# Altium integrated library Atmel Microcontroller 32-Bit ARM.IntLib: 116 symbols (part 7 of 10)
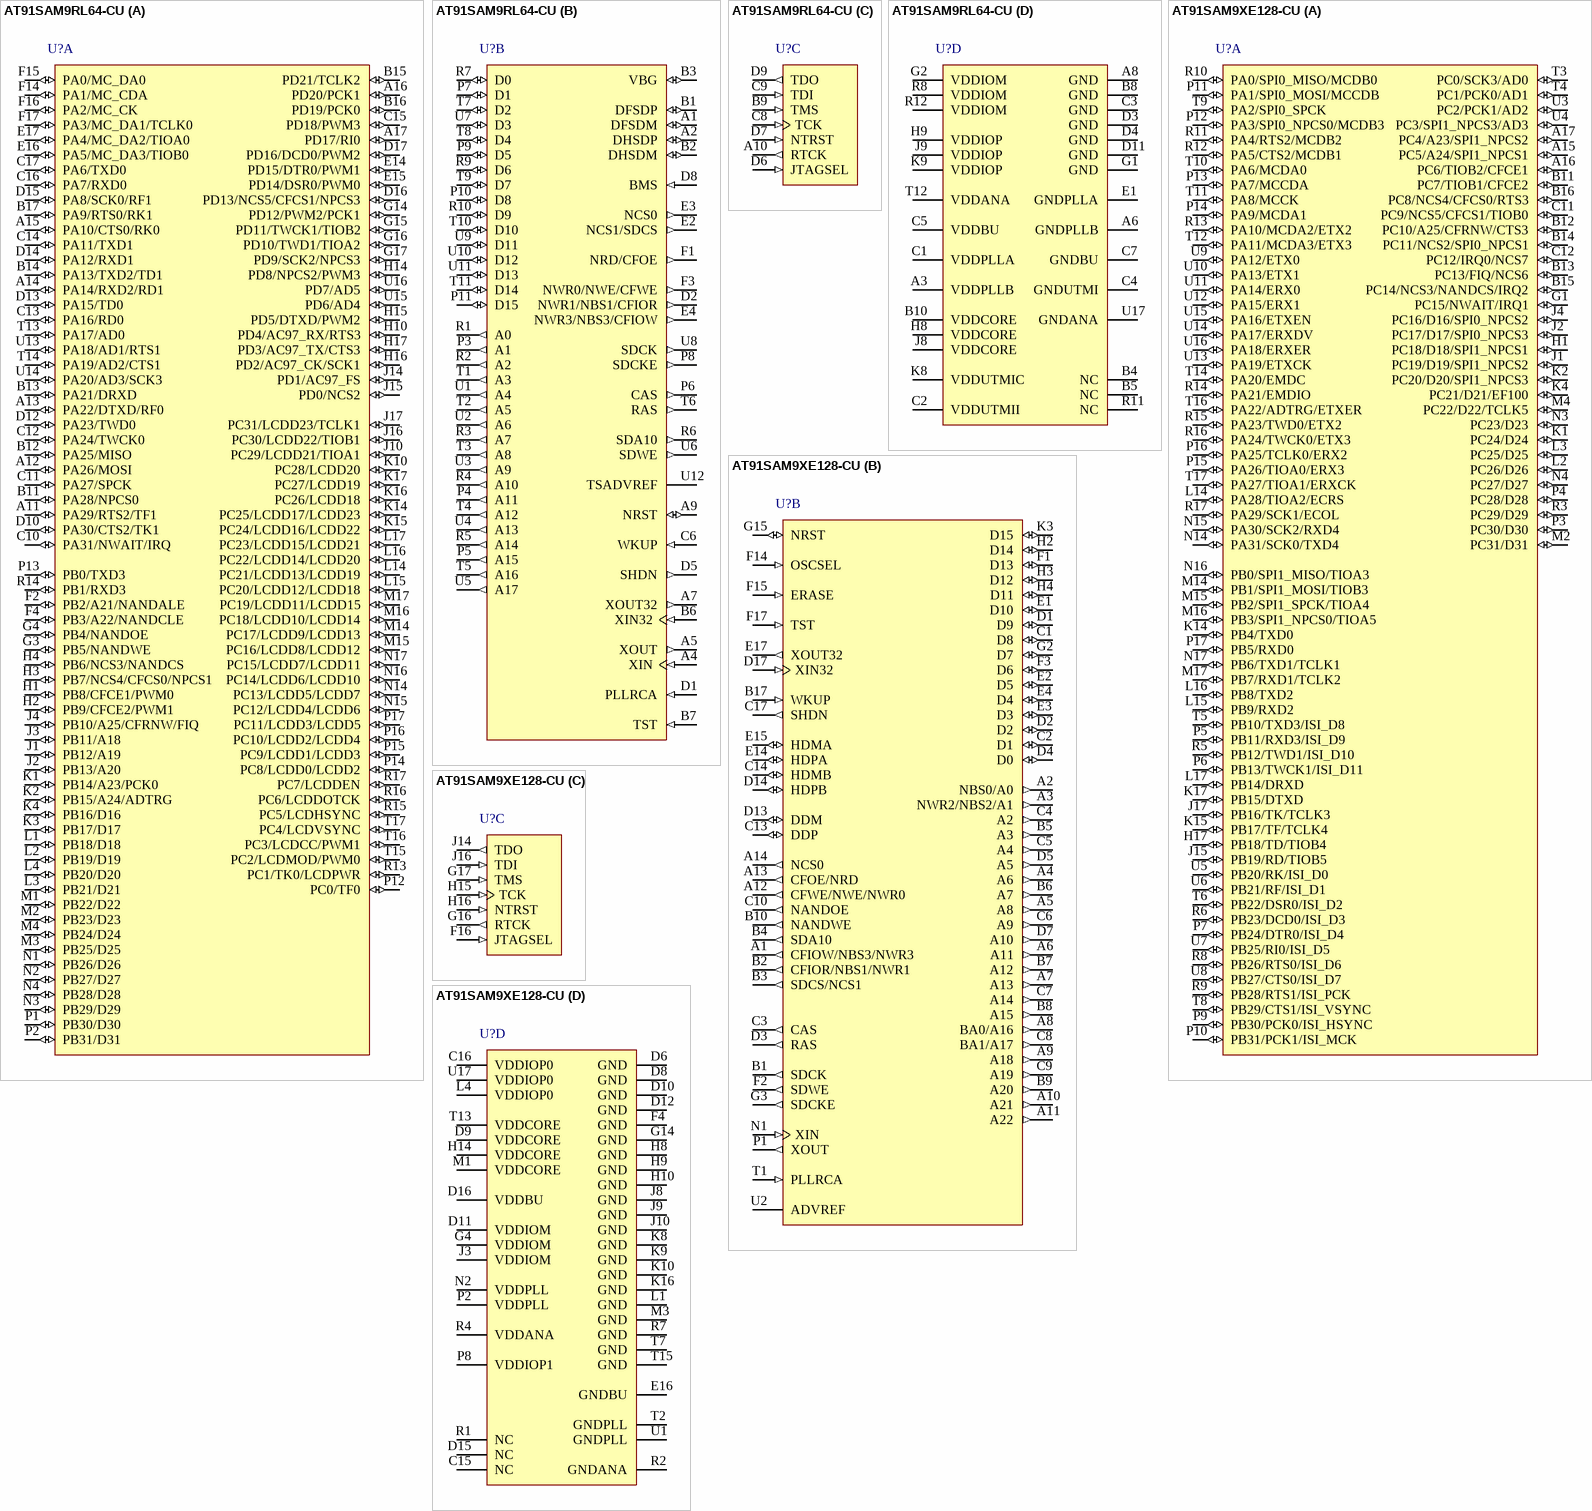
[diagram p58: symbols AT91SAM9RL64-CU to AT91SAM9XE128-CU]

## AT91SAM9XE128-CU
designator U?
AT91 ARM Thumb 32-bit Microcontroller, 128KB Flash, 32KB ROM, 16KB SRAM, EBI, E-MAC, FS USB, ISI, 217-Pin LFBGA, Industrial Grade (-40°C to 85°C), Pb-Free; Published: 20-Sep-2010; DatasheetVersion: revC, Jan-2010; PackageVersion: 2009; PackageReference: LFBGA217; Publisher: Altium Limited; PackageDescription: 217-Ball Plastic Low Profile Fine-Pitch BGA, 15 x 15 mm Body, 0.8 mm Pitch; Supplier 1: Digi-Key; Supplier Part Number 1: AT91SAM9XE128-CU-ND; Supplier 2: Mouser; Supplier Part Number 2: 556-A91SAM9XE128-CU; Code_JEDEC: MO-205; ComponentLink1Description: Manufacturer Link; ComponentLink1URL: http://www.atmel.com/products/AT91/default.asp?; ComponentLink2Description: AT91SAM9XE128/256/512 Datasheet; ComponentLink2URL: http://www.atmel.com/dyn/resources/prod_documents/doc6254.pdf; ComponentLink3Description: AT91SAM9XE128/256/512 Summary; ComponentLink3URL: http://www.atmel.com/dyn/resources/prod_documents/6254s.pdf; ComponentLink4Description: ARM926EJ-S Reference Manual; ComponentLink4URL: http://www.atmel.com/dyn/resources/prod_documents/ARM_926EJS_TRM.pdf; ComponentLink5Description: Atmel.com Home; ComponentLink5URL: http://www.atmel.com
footprint LFBGA217 (BGA, 208-Leads, Body 15x15mm, Pitch 0.8mm)
part A pins: A15 PC5/A24/SPI1_NPCS1 (io), A16 PC6/TIOB2/CFCE1 (io), A17 PC4/A23/SPI1_NPCS2 (io), B11 PC7/TIOB1/CFCE2 (io), B12 PC10/A25/CFRNW/CTS3 (io), B13 PC13/FIQ/NCS6 (io), B14 PC11/NCS2/SPI0_NPCS1 (io), B15 PC14/NCS3/NANDCS/IRQ2 (io), B16 PC8/NCS4/CFCS0/RTS3 (io), C11 PC9/NCS5/CFCS1/TIOB0 (io), C12 PC12/IRQ0/NCS7 (io), G1 PC15/NWAIT/IRQ1 (io), H1 PC18/D18/SPI1_NPCS1 (io), H17 PB18/TD/TIOB4 (io), J1 PC19/D19/SPI1_NPCS2 (io), J2 PC17/D17/SPI0_NPCS3 (io), J4 PC16/D16/SPI0_NPCS2 (io), J15 PB19/RD/TIOB5 (io), J17 PB16/TK/TCLK3 (io), K1 PC24/D24 (io), K2 PC20/D20/SPI1_NPCS3 (io), K4 PC21/D21/EF100 (io), K14 PB4/TXD0 (io), K15 PB17/TF/TCLK4 (io), K17 PB15/DTXD (io), L2 PC26/D26 (io), L3 PC25/D25 (io), L14 PA28/TIOA2/ECRS (io), L15 PB9/RXD2 (io), L16 PB8/TXD2 (io), L17 PB14/DRXD (io), M2 PC31/D31 (io), M4 PC22/D22/TCLK5 (io), M14 PB1/SPI1_MOSI/TIOB3 (io), M15 PB2/SPI1_SPCK/TIOA4 (io), M16 PB3/SPI1_NPCS0/TIOA5 (io), M17 PB7/RXD1/TCLK2 (io), N3 PC23/D23 (io), N4 PC27/D27 (io), N14 PA31/SCK0/TXD4 (io), N15 PA30/SCK2/RXD4 (io), N16 PB0/SPI1_MISO/TIOA3 (io), N17 PB6/TXD1/TCLK1 (io), P3 PC30/D30 (io), P4 PC28/D28 (io), P5 PB11/RXD3/ISI_D9 (io), P6 PB13/TWCK1/ISI_D11 (io), P7 PB24/DTR0/ISI_D4 (io), P9 PB30/PCK0/ISI_HSYNC (io), P10 PB31/PCK1/ISI_MCK (io), P11 PA1/SPI0_MOSI/MCCDB (io), P12 PA3/SPI0_NPCS0/MCDB3 (io), P13 PA7/MCCDA (io), P14 PA9/MCDA1 (io), P15 PA26/TIOA0/ERX3 (io), P16 PA25/TCLK0/ERX2 (io), P17 PB5/RXD0 (io), R3 PC29/D29 (io), R5 PB12/TWD1/ISI_D10 (io), R6 PB23/DCD0/ISI_D3 (io), R8 PB26/RTS0/ISI_D6 (io), R9 PB28/RTS1/ISI_PCK (io), R10 PA0/SPI0_MISO/MCDB0 (io), R11 PA4/RTS2/MCDB2 (io), R12 PA5/CTS2/MCDB1 (io), R13 PA10/MCDA2/ETX2 (io), R14 PA21/EMDIO (io), R15 PA23/TWD0/ETX2 (io), R16 PA24/TWCK0/ETX3 (io), R17 PA29/SCK1/ECOL (io), T3 PC0/SCK3/AD0 (io), T4 PC1/PCK0/AD1 (io), T5 PB10/TXD3/ISI_D8 (io), T6 PB22/DSR0/ISI_D2 (io), T8 PB29/CTS1/ISI_VSYNC (io), T9 PA2/SPI0_SPCK (io), T10 PA6/MCDA0 (io), T11 PA8/MCCK (io), T12 PA11/MCDA3/ETX3 (io), T14 PA20/EMDC (io), T16 PA22/ADTRG/ETXER (io), T17 PA27/TIOA1/ERXCK (io), U3 PC2/PCK1/AD2 (io), U4 PC3/SPI1_NPCS3/AD3 (io), U5 PB20/RK/ISI_D0 (io), U6 PB21/RF/ISI_D1 (io), U7 PB25/RI0/ISI_D5 (io), U8 PB27/CTS0/ISI_D7 (io), U9 PA12/ETX0 (io), U10 PA13/ETX1 (io), U11 PA14/ERX0 (io), U12 PA15/ERX1 (io), U13 PA19/ETXCK (io), U14 PA17/ERXDV (io), U15 PA16/ETXEN (io), U16 PA18/ERXER (io)
part B pins: A1 CFIOW/NBS3/NWR3 (out), A2 NBS0/A0 (out), A3 NWR2/NBS2/A1 (out), A4 A6 (out), A5 A8 (out), A6 A11 (out), A7 A13 (out), A8 BA0/A16 (out), A9 A18 (out), A10 A21 (out), A11 A22 (out), A12 CFWE/NWE/NWR0 (out), A13 CFOE/NRD (out), A14 NCS0 (out), B1 SDCK (out), B2 CFIOR/NBS1/NWR1 (out), B3 SDCS/NCS1 (out), B4 SDA10 (out), B5 A3 (out), B6 A7 (out), B7 A12 (out), B8 A15 (out), B9 A20 (out), B10 NANDWE (out), B17 WKUP (in), C1 D8 (io), C2 D1 (io), C3 CAS (out), C4 A2 (out), C5 A4 (out), C6 A9 (out), C7 A14 (out), C8 BA1/A17 (out), C9 A19 (out), C10 NANDOE (out), C13 DDP (io), C14 HDMB (io), C17 SHDN (out), D1 D9 (io), D2 (io), D3 RAS (out), D4 D0 (io), D5 A5 (out), D7 A10 (out), D13 DDM (io), D14 HDPB (io), D17 XIN32 (in), E1 D10 (io), E2 D5 (io), E3 D3 (io), E4 D4 (io), E14 HDPA (io), E15 HDMA (io), E17 XOUT32 (out), F1 D13 (io), F2 SDWE (out), F3 D6 (io), F14 OSCSEL (in), F15 ERASE (in), F17 TST (in), G2 D7 (io), G3 SDCKE (out), G15 NRST (io), H2 D14 (io), H3 D12 (io), H4 D11 (io), K3 D15 (io), N1 XIN (in), P1 XOUT (out), T1 PLLRCA (in), U2 ADVREF (power)
part C pins: F16 JTAGSEL (in), G16 RTCK (out), G17 TMS (in), H15 TCK (in), H16 NTRST (in), J14 TDO (out), J16 TDI (in)
part D pins: C15 NC, C16 VDDIOP0 (power), D6 GND (power), D8 GND (power), D9 VDDCORE (power), D10 GND (power), D11 VDDIOM (power), D12 GND (power), D15 NC, D16 VDDBU (power), E16 GNDBU (power), F4 GND (power), G4 VDDIOM (power), G14 GND (power), H8 GND (power), H9 GND (power), H10 GND (power), H14 VDDCORE (power), J3 VDDIOM (power), J8 GND (power), J9 GND (power), J10 GND (power), K8 GND (power), K9 GND (power), K10 GND (power), K16 GND (power), L1 GND (power), L4 VDDIOP0 (power), M1 VDDCORE (power), M3 GND (power), N2 VDDPLL (power), P2 VDDPLL (power), P8 VDDIOP1 (power), R1 NC, R2 GNDANA (power), R4 VDDANA (power), R7 GND (power), T2 GNDPLL (power), T7 GND (power), T13 VDDCORE (power), T15 GND (power), U1 GNDPLL (power), U17 VDDIOP0 (power)

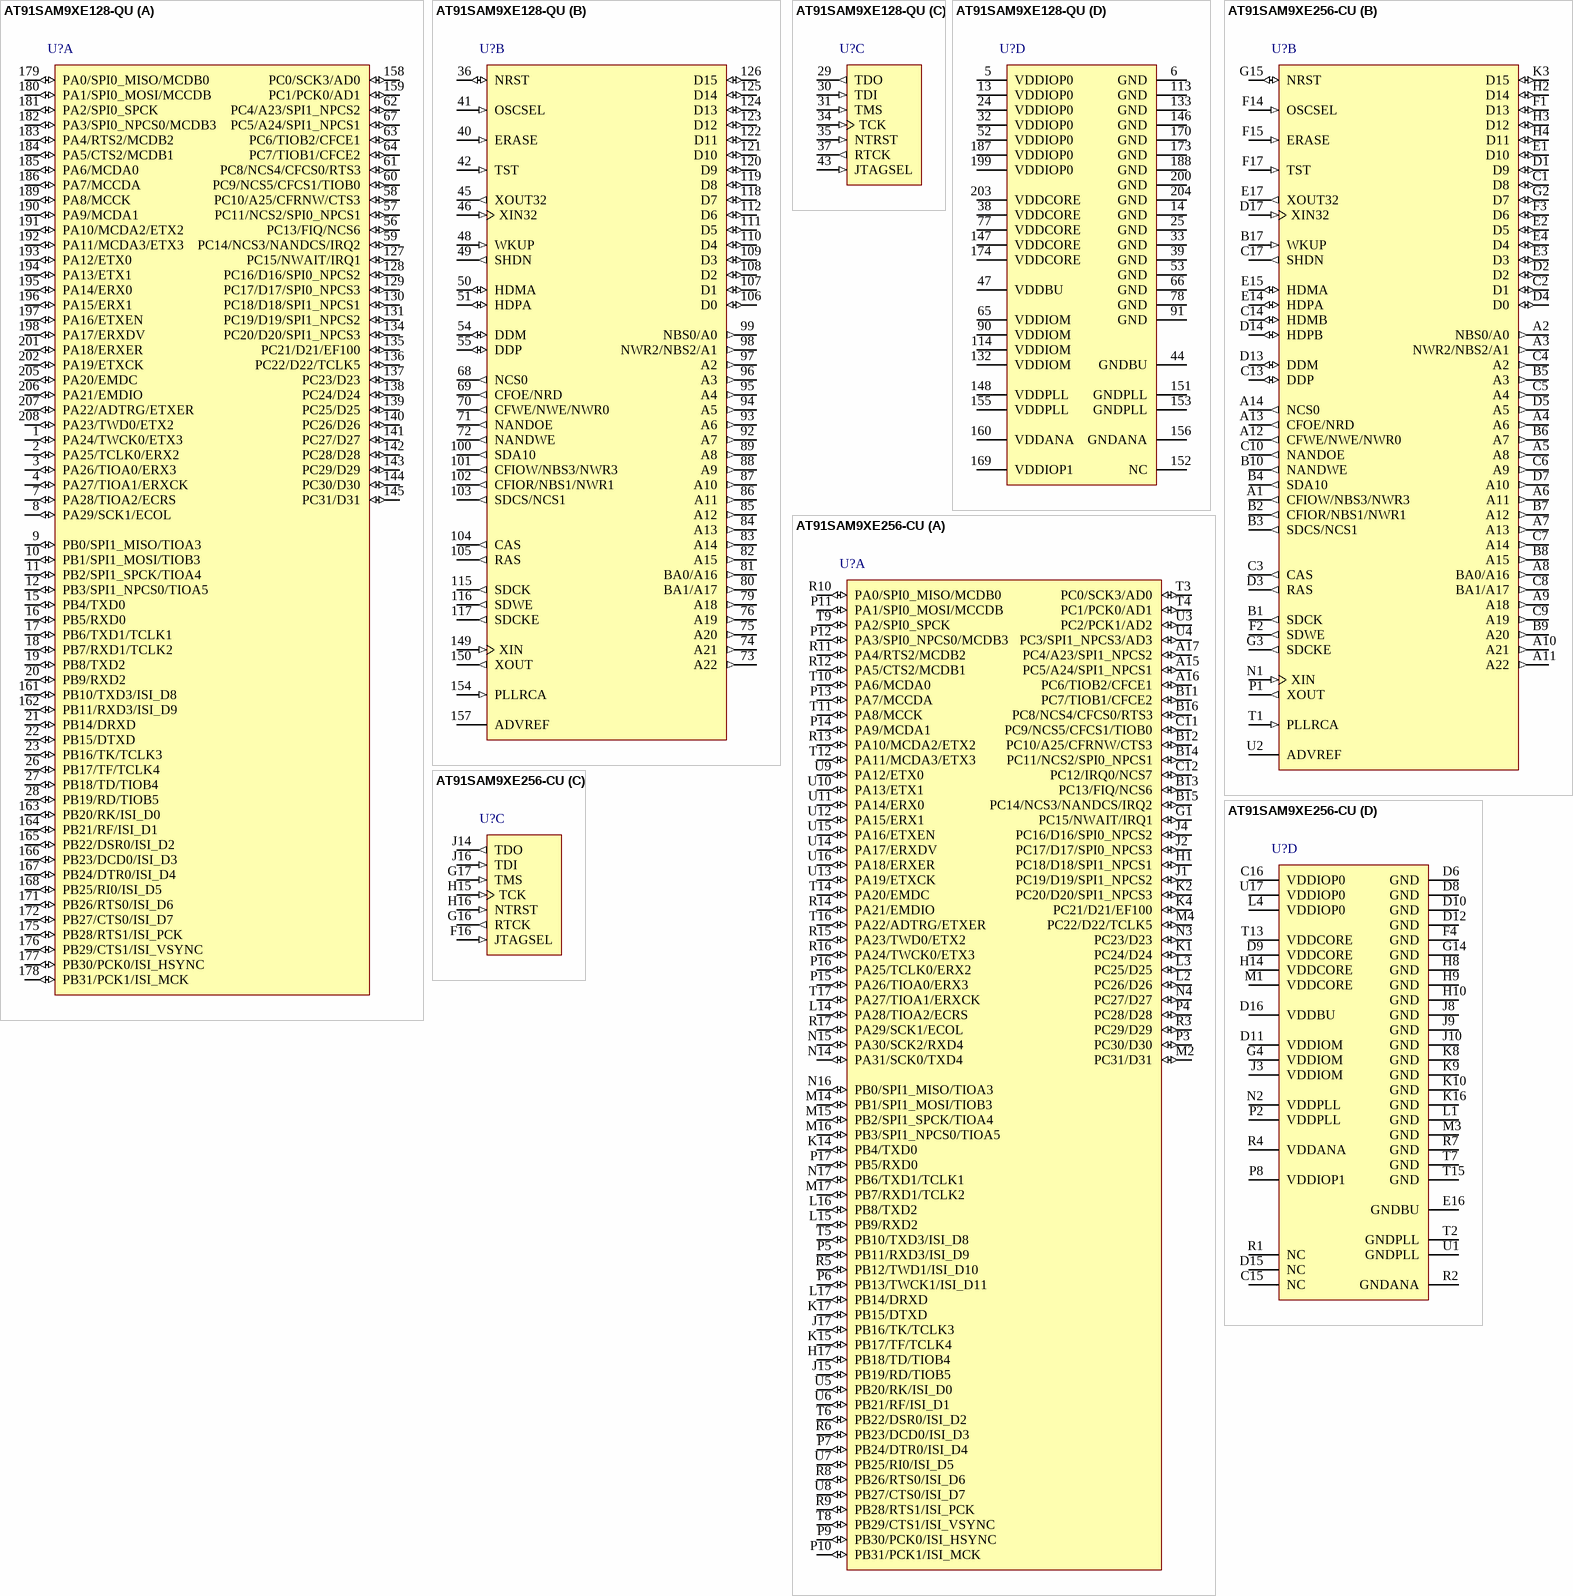
[diagram p37: symbols AT91SAM9XE128-QU to AT91SAM9XE256-CU]

## AT91SAM9XE128-QU
designator U?
AT91 ARM Thumb 32-bit Microcontroller, 128KB Flash, 32KB ROM, 16KB SRAM, EBI, E-MAC, FS USB, ISI, 208-Pin PQFP, Industrial Grade (-40°C to 85°C), Pb-Free; Published: 20-Sep-2010; DatasheetVersion: revC, Jan-2010; PackageVersion: Jul-2005; PackageReference: QFP208; Publisher: Altium Limited; PackageDescription: 208-Pin Plastic Shrink Quad Flat Pack 0.5 mm Pitch; Supplier 1: Digi-Key; Supplier Part Number 1: AT91SAM9XE128-QU-ND; Supplier 2: Mouser; Supplier Part Number 2: 556-A91SAM9XE128-QU; Code_JEDEC: MS-022; ComponentLink1Description: Manufacturer Link; ComponentLink1URL: http://www.atmel.com/products/AT91/default.asp?; ComponentLink2Description: AT91SAM9XE128/256/512 Datasheet; ComponentLink2URL: http://www.atmel.com/dyn/resources/prod_documents/doc6254.pdf; ComponentLink3Description: AT91SAM9XE128/256/512 Summary; ComponentLink3URL: http://www.atmel.com/dyn/resources/prod_documents/6254s.pdf; ComponentLink4Description: ARM926EJ-S Reference Manual; ComponentLink4URL: http://www.atmel.com/dyn/resources/prod_documents/ARM_926EJS_TRM.pdf; ComponentLink5Description: Atmel.com Home; ComponentLink5URL: http://www.atmel.com
footprint QFP208_N (Shrink QFP, 208-Leads, Body 28x28mm, Pitch 0.5mm, IPC Medium Density)
footprint QFP208_L (Shrink QFP, 208-Leads, Body 28x28mm, Pitch 0.5mm, IPC High Density)
footprint QFP208_M (Shrink QFP, 208-Leads, Body 28x28mm, Pitch 0.5mm, IPC Low Density)
part A pins: 1 PA24/TWCK0/ETX3 (io), 2 PA25/TCLK0/ERX2 (io), 3 PA26/TIOA0/ERX3 (io), 4 PA27/TIOA1/ERXCK (io), 7 PA28/TIOA2/ECRS (io), 8 PA29/SCK1/ECOL (io), 9 PB0/SPI1_MISO/TIOA3 (io), 10 PB1/SPI1_MOSI/TIOB3 (io), 11 PB2/SPI1_SPCK/TIOA4 (io), 12 PB3/SPI1_NPCS0/TIOA5 (io), 15 PB4/TXD0 (io), 16 PB5/RXD0 (io), 17 PB6/TXD1/TCLK1 (io), 18 PB7/RXD1/TCLK2 (io), 19 PB8/TXD2 (io), 20 PB9/RXD2 (io), 21 PB14/DRXD (io), 22 PB15/DTXD (io), 23 PB16/TK/TCLK3 (io), 26 PB17/TF/TCLK4 (io), 27 PB18/TD/TIOB4 (io), 28 PB19/RD/TIOB5 (io), 56 PC13/FIQ/NCS6 (io), 57 PC11/NCS2/SPI0_NPCS1 (io), 58 PC10/A25/CFRNW/CTS3 (io), 59 PC14/NCS3/NANDCS/IRQ2 (io), 60 PC9/NCS5/CFCS1/TIOB0 (io), 61 PC8/NCS4/CFCS0/RTS3 (io), 62 PC4/A23/SPI1_NPCS2 (io), 63 PC6/TIOB2/CFCE1 (io), 64 PC7/TIOB1/CFCE2 (io), 67 PC5/A24/SPI1_NPCS1 (io), 127 PC15/NWAIT/IRQ1 (io), 128 PC16/D16/SPI0_NPCS2 (io), 129 PC17/D17/SPI0_NPCS3 (io), 130 PC18/D18/SPI1_NPCS1 (io), 131 PC19/D19/SPI1_NPCS2 (io), 134 PC20/D20/SPI1_NPCS3 (io), 135 PC21/D21/EF100 (io), 136 PC22/D22/TCLK5 (io), 137 PC23/D23 (io), 138 PC24/D24 (io), 139 PC25/D25 (io), 140 PC26/D26 (io), 141 PC27/D27 (io), 142 PC28/D28 (io), 143 PC29/D29 (io), 144 PC30/D30 (io), 145 PC31/D31 (io), 158 PC0/SCK3/AD0 (io), 159 PC1/PCK0/AD1 (io), 161 PB10/TXD3/ISI_D8 (io), 162 PB11/RXD3/ISI_D9 (io), 163 PB20/RK/ISI_D0 (io), 164 PB21/RF/ISI_D1 (io), 165 PB22/DSR0/ISI_D2 (io), 166 PB23/DCD0/ISI_D3 (io), 167 PB24/DTR0/ISI_D4 (io), 168 PB25/RI0/ISI_D5 (io), 171 PB26/RTS0/ISI_D6 (io), 172 PB27/CTS0/ISI_D7 (io), 175 PB28/RTS1/ISI_PCK (io), 176 PB29/CTS1/ISI_VSYNC (io), 177 PB30/PCK0/ISI_HSYNC (io), 178 PB31/PCK1/ISI_MCK (io), 179 PA0/SPI0_MISO/MCDB0 (io), 180 PA1/SPI0_MOSI/MCCDB (io), 181 PA2/SPI0_SPCK (io), 182 PA3/SPI0_NPCS0/MCDB3 (io), 183 PA4/RTS2/MCDB2 (io), 184 PA5/CTS2/MCDB1 (io), 185 PA6/MCDA0 (io), 186 PA7/MCCDA (io), 189 PA8/MCCK (io), 190 PA9/MCDA1 (io), 191 PA10/MCDA2/ETX2 (io), 192 PA11/MCDA3/ETX3 (io), 193 PA12/ETX0 (io), 194 PA13/ETX1 (io), 195 PA14/ERX0 (io), 196 PA15/ERX1 (io), 197 PA16/ETXEN (io), 198 PA17/ERXDV (io), 201 PA18/ERXER (io), 202 PA19/ETXCK (io), 205 PA20/EMDC (io), 206 PA21/EMDIO (io), 207 PA22/ADTRG/ETXER (io), 208 PA23/TWD0/ETX2 (io)
part B pins: 36 NRST (io), 40 ERASE (in), 41 OSCSEL (in), 42 TST (in), 45 XOUT32 (out), 46 XIN32 (in), 48 WKUP (in), 49 SHDN (out), 50 HDMA (io), 51 HDPA (io), 54 DDM (io), 55 DDP (io), 68 NCS0 (out), 69 CFOE/NRD (out), 70 CFWE/NWE/NWR0 (out), 71 NANDOE (out), 72 NANDWE (out), 73 A22 (out), 74 A21 (out), 75 A20 (out), 76 A19 (out), 79 A18 (out), 80 BA1/A17 (out), 81 BA0/A16 (out), 82 A15 (out), 83 A14 (out), 84 A13 (out), 85 A12 (out), 86 A11 (out), 87 A10 (out), 88 A9 (out), 89 A8 (out), 92 A7 (out), 93 A6 (out), 94 A5 (out), 95 A4 (out), 96 A3 (out), 97 A2 (out), 98 NWR2/NBS2/A1 (out), 99 NBS0/A0 (out), 100 SDA10 (out), 101 CFIOW/NBS3/NWR3 (out), 102 CFIOR/NBS1/NWR1 (out), 103 SDCS/NCS1 (out), 104 CAS (out), 105 RAS (out), 106 D0 (io), 107 D1 (io), 108 D2 (io), 109 D3 (io), 110 D4 (io), 111 D5 (io), 112 D6 (io), 115 SDCK (out), 116 SDWE (out), 117 SDCKE (out), 118 D7 (io), 119 D8 (io), 120 D9 (io), 121 D10 (io), 122 D11 (io), 123 D12 (io), 124 D13 (io), 125 D14 (io), 126 D15 (io), 149 XIN (in), 150 XOUT (out), 154 PLLRCA (in), 157 ADVREF (power)
part C pins: 29 TDO (out), 30 TDI (in), 31 TMS (in), 34 TCK (in), 35 NTRST (in), 37 RTCK (out), 43 JTAGSEL (in)
part D pins: 5 VDDIOP0 (power), 6 GND (power), 13 VDDIOP0 (power), 14 GND (power), 24 VDDIOP0 (power), 25 GND (power), 32 VDDIOP0 (power), 33 GND (power), 38 VDDCORE (power), 39 GND (power), 44 GNDBU (power), 47 VDDBU (power), 52 VDDIOP0 (power), 53 GND (power), 65 VDDIOM (power), 66 GND (power), 77 VDDCORE (power), 78 GND (power), 90 VDDIOM (power), 91 GND (power), 113 GND (power), 114 VDDIOM (power), 132 VDDIOM (power), 133 GND (power), 146 GND (power), 147 VDDCORE (power), 148 VDDPLL (power), 151 GNDPLL (power), 152 NC, 153 GNDPLL (power), 155 VDDPLL (power), 156 GNDANA (power), 160 VDDANA (power), 169 VDDIOP1 (power), 170 GND (power), 173 GND (power), 174 VDDCORE (power), 187 VDDIOP0 (power), 188 GND (power), 199 VDDIOP0 (power), 200 GND (power), 203 VDDCORE (power), 204 GND (power)

## AT91SAM9XE256-CU
designator U?
AT91 ARM Thumb 32-bit Microcontroller, 256KB Flash, 32KB ROM, 32KB SRAM, EBI, E-MAC, FS USB, ISI, 217-Pin LFBGA, Industrial Grade (-40°C to 85°C), Pb-Free; Published: 20-Sep-2010; DatasheetVersion: revC, Jan-2010; PackageVersion: 2009; PackageReference: LFBGA217; Publisher: Altium Limited; PackageDescription: 217-Ball Plastic Low Profile Fine-Pitch BGA, 15 x 15 mm Body, 0.8 mm Pitch; Supplier 1: Digi-Key; Supplier Part Number 1: AT91SAM9XE256-CU-ND; Supplier 2: Mouser; Supplier Part Number 2: 556-A91SAM9XE256CU; Code_JEDEC: MO-205; ComponentLink1Description: Manufacturer Link; ComponentLink1URL: http://www.atmel.com/products/AT91/default.asp?; ComponentLink2Description: AT91SAM9XE128/256/512 Datasheet; ComponentLink2URL: http://www.atmel.com/dyn/resources/prod_documents/doc6254.pdf; ComponentLink3Description: AT91SAM9XE128/256/512 Summary; ComponentLink3URL: http://www.atmel.com/dyn/resources/prod_documents/6254s.pdf; ComponentLink4Description: ARM926EJ-S Reference Manual; ComponentLink4URL: http://www.atmel.com/dyn/resources/prod_documents/ARM_926EJS_TRM.pdf; ComponentLink5Description: Atmel.com Home; ComponentLink5URL: http://www.atmel.com
footprint LFBGA217 (BGA, 208-Leads, Body 15x15mm, Pitch 0.8mm)
part A pins: A15 PC5/A24/SPI1_NPCS1 (io), A16 PC6/TIOB2/CFCE1 (io), A17 PC4/A23/SPI1_NPCS2 (io), B11 PC7/TIOB1/CFCE2 (io), B12 PC10/A25/CFRNW/CTS3 (io), B13 PC13/FIQ/NCS6 (io), B14 PC11/NCS2/SPI0_NPCS1 (io), B15 PC14/NCS3/NANDCS/IRQ2 (io), B16 PC8/NCS4/CFCS0/RTS3 (io), C11 PC9/NCS5/CFCS1/TIOB0 (io), C12 PC12/IRQ0/NCS7 (io), G1 PC15/NWAIT/IRQ1 (io), H1 PC18/D18/SPI1_NPCS1 (io), H17 PB18/TD/TIOB4 (io), J1 PC19/D19/SPI1_NPCS2 (io), J2 PC17/D17/SPI0_NPCS3 (io), J4 PC16/D16/SPI0_NPCS2 (io), J15 PB19/RD/TIOB5 (io), J17 PB16/TK/TCLK3 (io), K1 PC24/D24 (io), K2 PC20/D20/SPI1_NPCS3 (io), K4 PC21/D21/EF100 (io), K14 PB4/TXD0 (io), K15 PB17/TF/TCLK4 (io), K17 PB15/DTXD (io), L2 PC26/D26 (io), L3 PC25/D25 (io), L14 PA28/TIOA2/ECRS (io), L15 PB9/RXD2 (io), L16 PB8/TXD2 (io), L17 PB14/DRXD (io), M2 PC31/D31 (io), M4 PC22/D22/TCLK5 (io), M14 PB1/SPI1_MOSI/TIOB3 (io), M15 PB2/SPI1_SPCK/TIOA4 (io), M16 PB3/SPI1_NPCS0/TIOA5 (io), M17 PB7/RXD1/TCLK2 (io), N3 PC23/D23 (io), N4 PC27/D27 (io), N14 PA31/SCK0/TXD4 (io), N15 PA30/SCK2/RXD4 (io), N16 PB0/SPI1_MISO/TIOA3 (io), N17 PB6/TXD1/TCLK1 (io), P3 PC30/D30 (io), P4 PC28/D28 (io), P5 PB11/RXD3/ISI_D9 (io), P6 PB13/TWCK1/ISI_D11 (io), P7 PB24/DTR0/ISI_D4 (io), P9 PB30/PCK0/ISI_HSYNC (io), P10 PB31/PCK1/ISI_MCK (io), P11 PA1/SPI0_MOSI/MCCDB (io), P12 PA3/SPI0_NPCS0/MCDB3 (io), P13 PA7/MCCDA (io), P14 PA9/MCDA1 (io), P15 PA26/TIOA0/ERX3 (io), P16 PA25/TCLK0/ERX2 (io), P17 PB5/RXD0 (io), R3 PC29/D29 (io), R5 PB12/TWD1/ISI_D10 (io), R6 PB23/DCD0/ISI_D3 (io), R8 PB26/RTS0/ISI_D6 (io), R9 PB28/RTS1/ISI_PCK (io), R10 PA0/SPI0_MISO/MCDB0 (io), R11 PA4/RTS2/MCDB2 (io), R12 PA5/CTS2/MCDB1 (io), R13 PA10/MCDA2/ETX2 (io), R14 PA21/EMDIO (io), R15 PA23/TWD0/ETX2 (io), R16 PA24/TWCK0/ETX3 (io), R17 PA29/SCK1/ECOL (io), T3 PC0/SCK3/AD0 (io), T4 PC1/PCK0/AD1 (io), T5 PB10/TXD3/ISI_D8 (io), T6 PB22/DSR0/ISI_D2 (io), T8 PB29/CTS1/ISI_VSYNC (io), T9 PA2/SPI0_SPCK (io), T10 PA6/MCDA0 (io), T11 PA8/MCCK (io), T12 PA11/MCDA3/ETX3 (io), T14 PA20/EMDC (io), T16 PA22/ADTRG/ETXER (io), T17 PA27/TIOA1/ERXCK (io), U3 PC2/PCK1/AD2 (io), U4 PC3/SPI1_NPCS3/AD3 (io), U5 PB20/RK/ISI_D0 (io), U6 PB21/RF/ISI_D1 (io), U7 PB25/RI0/ISI_D5 (io), U8 PB27/CTS0/ISI_D7 (io), U9 PA12/ETX0 (io), U10 PA13/ETX1 (io), U11 PA14/ERX0 (io), U12 PA15/ERX1 (io), U13 PA19/ETXCK (io), U14 PA17/ERXDV (io), U15 PA16/ETXEN (io), U16 PA18/ERXER (io)
part B pins: A1 CFIOW/NBS3/NWR3 (out), A2 NBS0/A0 (out), A3 NWR2/NBS2/A1 (out), A4 A6 (out), A5 A8 (out), A6 A11 (out), A7 A13 (out), A8 BA0/A16 (out), A9 A18 (out), A10 A21 (out), A11 A22 (out), A12 CFWE/NWE/NWR0 (out), A13 CFOE/NRD (out), A14 NCS0 (out), B1 SDCK (out), B2 CFIOR/NBS1/NWR1 (out), B3 SDCS/NCS1 (out), B4 SDA10 (out), B5 A3 (out), B6 A7 (out), B7 A12 (out), B8 A15 (out), B9 A20 (out), B10 NANDWE (out), B17 WKUP (in), C1 D8 (io), C2 D1 (io), C3 CAS (out), C4 A2 (out), C5 A4 (out), C6 A9 (out), C7 A14 (out), C8 BA1/A17 (out), C9 A19 (out), C10 NANDOE (out), C13 DDP (io), C14 HDMB (io), C17 SHDN (out), D1 D9 (io), D2 (io), D3 RAS (out), D4 D0 (io), D5 A5 (out), D7 A10 (out), D13 DDM (io), D14 HDPB (io), D17 XIN32 (in), E1 D10 (io), E2 D5 (io), E3 D3 (io), E4 D4 (io), E14 HDPA (io), E15 HDMA (io), E17 XOUT32 (out), F1 D13 (io), F2 SDWE (out), F3 D6 (io), F14 OSCSEL (in), F15 ERASE (in), F17 TST (in), G2 D7 (io), G3 SDCKE (out), G15 NRST (io), H2 D14 (io), H3 D12 (io), H4 D11 (io), K3 D15 (io), N1 XIN (in), P1 XOUT (out), T1 PLLRCA (in), U2 ADVREF (power)
part C pins: F16 JTAGSEL (in), G16 RTCK (out), G17 TMS (in), H15 TCK (in), H16 NTRST (in), J14 TDO (out), J16 TDI (in)
part D pins: C15 NC, C16 VDDIOP0 (power), D6 GND (power), D8 GND (power), D9 VDDCORE (power), D10 GND (power), D11 VDDIOM (power), D12 GND (power), D15 NC, D16 VDDBU (power), E16 GNDBU (power), F4 GND (power), G4 VDDIOM (power), G14 GND (power), H8 GND (power), H9 GND (power), H10 GND (power), H14 VDDCORE (power), J3 VDDIOM (power), J8 GND (power), J9 GND (power), J10 GND (power), K8 GND (power), K9 GND (power), K10 GND (power), K16 GND (power), L1 GND (power), L4 VDDIOP0 (power), M1 VDDCORE (power), M3 GND (power), N2 VDDPLL (power), P2 VDDPLL (power), P8 VDDIOP1 (power), R1 NC, R2 GNDANA (power), R4 VDDANA (power), R7 GND (power), T2 GNDPLL (power), T7 GND (power), T13 VDDCORE (power), T15 GND (power), U1 GNDPLL (power), U17 VDDIOP0 (power)

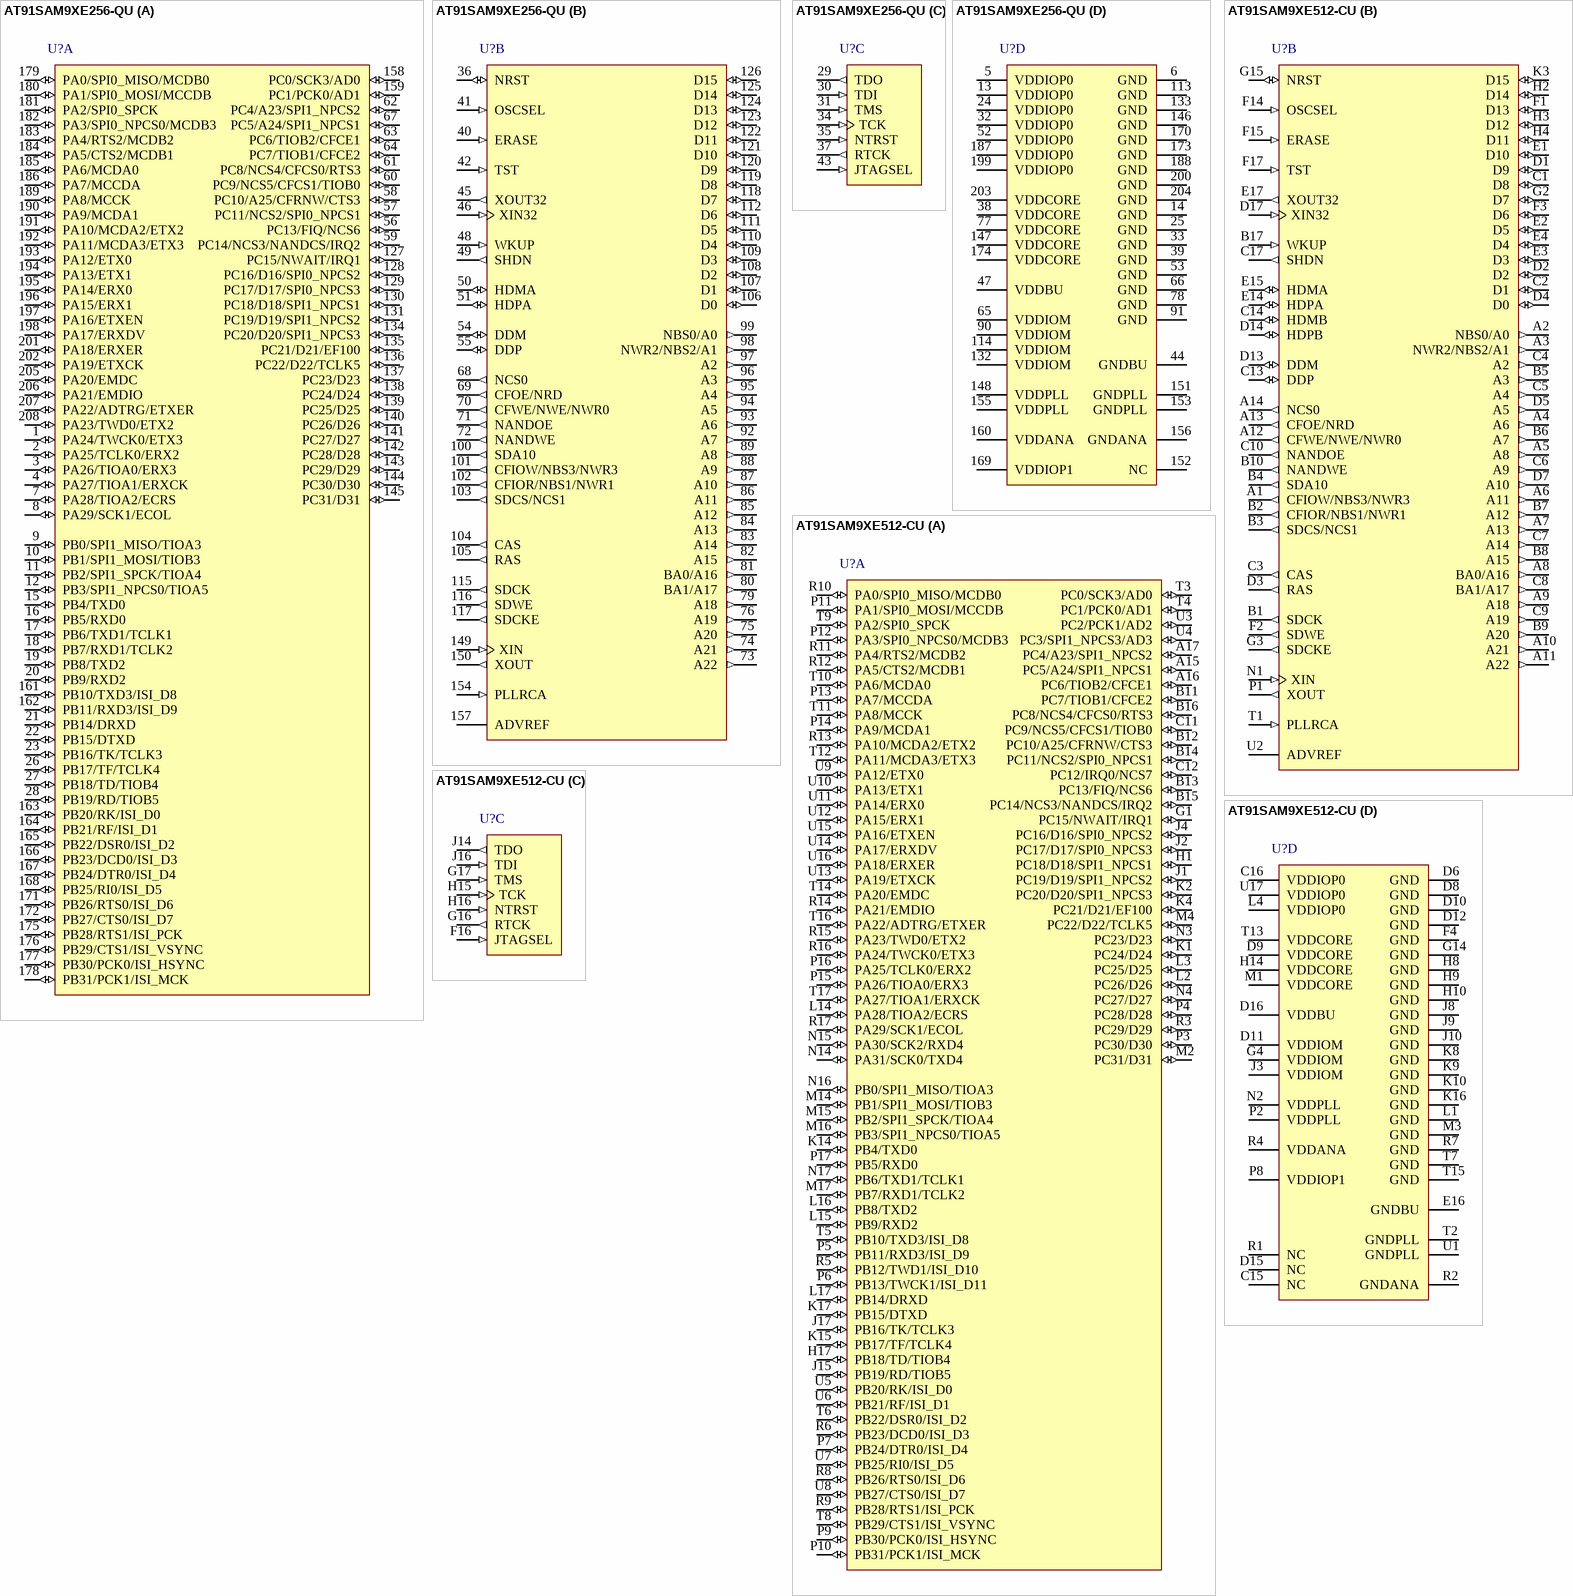
[diagram p38: symbols AT91SAM9XE256-QU to AT91SAM9XE512-CU]

## AT91SAM9XE256-QU
designator U?
AT91 ARM Thumb 32-bit Microcontroller, 256KB Flash, 32KB ROM, 32KB SRAM, EBI, E-MAC, FS USB, ISI, 208-Pin PQFP, Industrial Grade (-40°C to 85°C), Pb-Free; Published: 20-Sep-2010; DatasheetVersion: revC, Jan-2010; PackageVersion: Jul-2005; PackageReference: QFP208; Publisher: Altium Limited; PackageDescription: 208-Pin Plastic Shrink Quad Flat Pack 0.5 mm Pitch; Supplier 1: Digi-Key; Supplier Part Number 1: AT91SAM9XE256-QU-ND; Supplier 2: Mouser; Supplier Part Number 2: 556-A91SAM9XE256QU; Code_JEDEC: MS-022; ComponentLink1Description: Manufacturer Link; ComponentLink1URL: http://www.atmel.com/products/AT91/default.asp?; ComponentLink2Description: AT91SAM9XE128/256/512 Datasheet; ComponentLink2URL: http://www.atmel.com/dyn/resources/prod_documents/doc6254.pdf; ComponentLink3Description: AT91SAM9XE128/256/512 Summary; ComponentLink3URL: http://www.atmel.com/dyn/resources/prod_documents/6254s.pdf; ComponentLink4Description: ARM926EJ-S Reference Manual; ComponentLink4URL: http://www.atmel.com/dyn/resources/prod_documents/ARM_926EJS_TRM.pdf; ComponentLink5Description: Atmel.com Home; ComponentLink5URL: http://www.atmel.com
footprint QFP208_N (Shrink QFP, 208-Leads, Body 28x28mm, Pitch 0.5mm, IPC Medium Density)
footprint QFP208_L (Shrink QFP, 208-Leads, Body 28x28mm, Pitch 0.5mm, IPC High Density)
footprint QFP208_M (Shrink QFP, 208-Leads, Body 28x28mm, Pitch 0.5mm, IPC Low Density)
part A pins: 1 PA24/TWCK0/ETX3 (io), 2 PA25/TCLK0/ERX2 (io), 3 PA26/TIOA0/ERX3 (io), 4 PA27/TIOA1/ERXCK (io), 7 PA28/TIOA2/ECRS (io), 8 PA29/SCK1/ECOL (io), 9 PB0/SPI1_MISO/TIOA3 (io), 10 PB1/SPI1_MOSI/TIOB3 (io), 11 PB2/SPI1_SPCK/TIOA4 (io), 12 PB3/SPI1_NPCS0/TIOA5 (io), 15 PB4/TXD0 (io), 16 PB5/RXD0 (io), 17 PB6/TXD1/TCLK1 (io), 18 PB7/RXD1/TCLK2 (io), 19 PB8/TXD2 (io), 20 PB9/RXD2 (io), 21 PB14/DRXD (io), 22 PB15/DTXD (io), 23 PB16/TK/TCLK3 (io), 26 PB17/TF/TCLK4 (io), 27 PB18/TD/TIOB4 (io), 28 PB19/RD/TIOB5 (io), 56 PC13/FIQ/NCS6 (io), 57 PC11/NCS2/SPI0_NPCS1 (io), 58 PC10/A25/CFRNW/CTS3 (io), 59 PC14/NCS3/NANDCS/IRQ2 (io), 60 PC9/NCS5/CFCS1/TIOB0 (io), 61 PC8/NCS4/CFCS0/RTS3 (io), 62 PC4/A23/SPI1_NPCS2 (io), 63 PC6/TIOB2/CFCE1 (io), 64 PC7/TIOB1/CFCE2 (io), 67 PC5/A24/SPI1_NPCS1 (io), 127 PC15/NWAIT/IRQ1 (io), 128 PC16/D16/SPI0_NPCS2 (io), 129 PC17/D17/SPI0_NPCS3 (io), 130 PC18/D18/SPI1_NPCS1 (io), 131 PC19/D19/SPI1_NPCS2 (io), 134 PC20/D20/SPI1_NPCS3 (io), 135 PC21/D21/EF100 (io), 136 PC22/D22/TCLK5 (io), 137 PC23/D23 (io), 138 PC24/D24 (io), 139 PC25/D25 (io), 140 PC26/D26 (io), 141 PC27/D27 (io), 142 PC28/D28 (io), 143 PC29/D29 (io), 144 PC30/D30 (io), 145 PC31/D31 (io), 158 PC0/SCK3/AD0 (io), 159 PC1/PCK0/AD1 (io), 161 PB10/TXD3/ISI_D8 (io), 162 PB11/RXD3/ISI_D9 (io), 163 PB20/RK/ISI_D0 (io), 164 PB21/RF/ISI_D1 (io), 165 PB22/DSR0/ISI_D2 (io), 166 PB23/DCD0/ISI_D3 (io), 167 PB24/DTR0/ISI_D4 (io), 168 PB25/RI0/ISI_D5 (io), 171 PB26/RTS0/ISI_D6 (io), 172 PB27/CTS0/ISI_D7 (io), 175 PB28/RTS1/ISI_PCK (io), 176 PB29/CTS1/ISI_VSYNC (io), 177 PB30/PCK0/ISI_HSYNC (io), 178 PB31/PCK1/ISI_MCK (io), 179 PA0/SPI0_MISO/MCDB0 (io), 180 PA1/SPI0_MOSI/MCCDB (io), 181 PA2/SPI0_SPCK (io), 182 PA3/SPI0_NPCS0/MCDB3 (io), 183 PA4/RTS2/MCDB2 (io), 184 PA5/CTS2/MCDB1 (io), 185 PA6/MCDA0 (io), 186 PA7/MCCDA (io), 189 PA8/MCCK (io), 190 PA9/MCDA1 (io), 191 PA10/MCDA2/ETX2 (io), 192 PA11/MCDA3/ETX3 (io), 193 PA12/ETX0 (io), 194 PA13/ETX1 (io), 195 PA14/ERX0 (io), 196 PA15/ERX1 (io), 197 PA16/ETXEN (io), 198 PA17/ERXDV (io), 201 PA18/ERXER (io), 202 PA19/ETXCK (io), 205 PA20/EMDC (io), 206 PA21/EMDIO (io), 207 PA22/ADTRG/ETXER (io), 208 PA23/TWD0/ETX2 (io)
part B pins: 36 NRST (io), 40 ERASE (in), 41 OSCSEL (in), 42 TST (in), 45 XOUT32 (out), 46 XIN32 (in), 48 WKUP (in), 49 SHDN (out), 50 HDMA (io), 51 HDPA (io), 54 DDM (io), 55 DDP (io), 68 NCS0 (out), 69 CFOE/NRD (out), 70 CFWE/NWE/NWR0 (out), 71 NANDOE (out), 72 NANDWE (out), 73 A22 (out), 74 A21 (out), 75 A20 (out), 76 A19 (out), 79 A18 (out), 80 BA1/A17 (out), 81 BA0/A16 (out), 82 A15 (out), 83 A14 (out), 84 A13 (out), 85 A12 (out), 86 A11 (out), 87 A10 (out), 88 A9 (out), 89 A8 (out), 92 A7 (out), 93 A6 (out), 94 A5 (out), 95 A4 (out), 96 A3 (out), 97 A2 (out), 98 NWR2/NBS2/A1 (out), 99 NBS0/A0 (out), 100 SDA10 (out), 101 CFIOW/NBS3/NWR3 (out), 102 CFIOR/NBS1/NWR1 (out), 103 SDCS/NCS1 (out), 104 CAS (out), 105 RAS (out), 106 D0 (io), 107 D1 (io), 108 D2 (io), 109 D3 (io), 110 D4 (io), 111 D5 (io), 112 D6 (io), 115 SDCK (out), 116 SDWE (out), 117 SDCKE (out), 118 D7 (io), 119 D8 (io), 120 D9 (io), 121 D10 (io), 122 D11 (io), 123 D12 (io), 124 D13 (io), 125 D14 (io), 126 D15 (io), 149 XIN (in), 150 XOUT (out), 154 PLLRCA (in), 157 ADVREF (power)
part C pins: 29 TDO (out), 30 TDI (in), 31 TMS (in), 34 TCK (in), 35 NTRST (in), 37 RTCK (out), 43 JTAGSEL (in)
part D pins: 5 VDDIOP0 (power), 6 GND (power), 13 VDDIOP0 (power), 14 GND (power), 24 VDDIOP0 (power), 25 GND (power), 32 VDDIOP0 (power), 33 GND (power), 38 VDDCORE (power), 39 GND (power), 44 GNDBU (power), 47 VDDBU (power), 52 VDDIOP0 (power), 53 GND (power), 65 VDDIOM (power), 66 GND (power), 77 VDDCORE (power), 78 GND (power), 90 VDDIOM (power), 91 GND (power), 113 GND (power), 114 VDDIOM (power), 132 VDDIOM (power), 133 GND (power), 146 GND (power), 147 VDDCORE (power), 148 VDDPLL (power), 151 GNDPLL (power), 152 NC, 153 GNDPLL (power), 155 VDDPLL (power), 156 GNDANA (power), 160 VDDANA (power), 169 VDDIOP1 (power), 170 GND (power), 173 GND (power), 174 VDDCORE (power), 187 VDDIOP0 (power), 188 GND (power), 199 VDDIOP0 (power), 200 GND (power), 203 VDDCORE (power), 204 GND (power)

## AT91SAM9XE512-CU
designator U?
AT91 ARM Thumb 32-bit Microcontroller, 512KB Flash, 32KB ROM, 32KB SRAM, EBI, E-MAC, FS USB, ISI, 217-Pin LFBGA, Industrial Grade (-40°C to 85°C), Pb-Free; Published: 20-Sep-2010; DatasheetVersion: revC, Jan-2010; PackageVersion: 2009; PackageReference: LFBGA217; Publisher: Altium Limited; PackageDescription: 217-Ball Plastic Low Profile Fine-Pitch BGA, 15 x 15 mm Body, 0.8 mm Pitch; Supplier 1: Digi-Key; Supplier Part Number 1: AT91SAM9XE512-CU-ND; Supplier 2: Mouser; Supplier Part Number 2: 556-A91SAM9XE512-CU; Code_JEDEC: MO-205; ComponentLink1Description: Manufacturer Link; ComponentLink1URL: http://www.atmel.com/products/AT91/default.asp?; ComponentLink2Description: AT91SAM9XE128/256/512 Datasheet; ComponentLink2URL: http://www.atmel.com/dyn/resources/prod_documents/doc6254.pdf; ComponentLink3Description: AT91SAM9XE128/256/512 Summary; ComponentLink3URL: http://www.atmel.com/dyn/resources/prod_documents/6254s.pdf; ComponentLink4Description: ARM926EJ-S Reference Manual; ComponentLink4URL: http://www.atmel.com/dyn/resources/prod_documents/ARM_926EJS_TRM.pdf; ComponentLink5Description: Atmel.com Home; ComponentLink5URL: http://www.atmel.com
footprint LFBGA217 (BGA, 208-Leads, Body 15x15mm, Pitch 0.8mm)
part A pins: A15 PC5/A24/SPI1_NPCS1 (io), A16 PC6/TIOB2/CFCE1 (io), A17 PC4/A23/SPI1_NPCS2 (io), B11 PC7/TIOB1/CFCE2 (io), B12 PC10/A25/CFRNW/CTS3 (io), B13 PC13/FIQ/NCS6 (io), B14 PC11/NCS2/SPI0_NPCS1 (io), B15 PC14/NCS3/NANDCS/IRQ2 (io), B16 PC8/NCS4/CFCS0/RTS3 (io), C11 PC9/NCS5/CFCS1/TIOB0 (io), C12 PC12/IRQ0/NCS7 (io), G1 PC15/NWAIT/IRQ1 (io), H1 PC18/D18/SPI1_NPCS1 (io), H17 PB18/TD/TIOB4 (io), J1 PC19/D19/SPI1_NPCS2 (io), J2 PC17/D17/SPI0_NPCS3 (io), J4 PC16/D16/SPI0_NPCS2 (io), J15 PB19/RD/TIOB5 (io), J17 PB16/TK/TCLK3 (io), K1 PC24/D24 (io), K2 PC20/D20/SPI1_NPCS3 (io), K4 PC21/D21/EF100 (io), K14 PB4/TXD0 (io), K15 PB17/TF/TCLK4 (io), K17 PB15/DTXD (io), L2 PC26/D26 (io), L3 PC25/D25 (io), L14 PA28/TIOA2/ECRS (io), L15 PB9/RXD2 (io), L16 PB8/TXD2 (io), L17 PB14/DRXD (io), M2 PC31/D31 (io), M4 PC22/D22/TCLK5 (io), M14 PB1/SPI1_MOSI/TIOB3 (io), M15 PB2/SPI1_SPCK/TIOA4 (io), M16 PB3/SPI1_NPCS0/TIOA5 (io), M17 PB7/RXD1/TCLK2 (io), N3 PC23/D23 (io), N4 PC27/D27 (io), N14 PA31/SCK0/TXD4 (io), N15 PA30/SCK2/RXD4 (io), N16 PB0/SPI1_MISO/TIOA3 (io), N17 PB6/TXD1/TCLK1 (io), P3 PC30/D30 (io), P4 PC28/D28 (io), P5 PB11/RXD3/ISI_D9 (io), P6 PB13/TWCK1/ISI_D11 (io), P7 PB24/DTR0/ISI_D4 (io), P9 PB30/PCK0/ISI_HSYNC (io), P10 PB31/PCK1/ISI_MCK (io), P11 PA1/SPI0_MOSI/MCCDB (io), P12 PA3/SPI0_NPCS0/MCDB3 (io), P13 PA7/MCCDA (io), P14 PA9/MCDA1 (io), P15 PA26/TIOA0/ERX3 (io), P16 PA25/TCLK0/ERX2 (io), P17 PB5/RXD0 (io), R3 PC29/D29 (io), R5 PB12/TWD1/ISI_D10 (io), R6 PB23/DCD0/ISI_D3 (io), R8 PB26/RTS0/ISI_D6 (io), R9 PB28/RTS1/ISI_PCK (io), R10 PA0/SPI0_MISO/MCDB0 (io), R11 PA4/RTS2/MCDB2 (io), R12 PA5/CTS2/MCDB1 (io), R13 PA10/MCDA2/ETX2 (io), R14 PA21/EMDIO (io), R15 PA23/TWD0/ETX2 (io), R16 PA24/TWCK0/ETX3 (io), R17 PA29/SCK1/ECOL (io), T3 PC0/SCK3/AD0 (io), T4 PC1/PCK0/AD1 (io), T5 PB10/TXD3/ISI_D8 (io), T6 PB22/DSR0/ISI_D2 (io), T8 PB29/CTS1/ISI_VSYNC (io), T9 PA2/SPI0_SPCK (io), T10 PA6/MCDA0 (io), T11 PA8/MCCK (io), T12 PA11/MCDA3/ETX3 (io), T14 PA20/EMDC (io), T16 PA22/ADTRG/ETXER (io), T17 PA27/TIOA1/ERXCK (io), U3 PC2/PCK1/AD2 (io), U4 PC3/SPI1_NPCS3/AD3 (io), U5 PB20/RK/ISI_D0 (io), U6 PB21/RF/ISI_D1 (io), U7 PB25/RI0/ISI_D5 (io), U8 PB27/CTS0/ISI_D7 (io), U9 PA12/ETX0 (io), U10 PA13/ETX1 (io), U11 PA14/ERX0 (io), U12 PA15/ERX1 (io), U13 PA19/ETXCK (io), U14 PA17/ERXDV (io), U15 PA16/ETXEN (io), U16 PA18/ERXER (io)
part B pins: A1 CFIOW/NBS3/NWR3 (out), A2 NBS0/A0 (out), A3 NWR2/NBS2/A1 (out), A4 A6 (out), A5 A8 (out), A6 A11 (out), A7 A13 (out), A8 BA0/A16 (out), A9 A18 (out), A10 A21 (out), A11 A22 (out), A12 CFWE/NWE/NWR0 (out), A13 CFOE/NRD (out), A14 NCS0 (out), B1 SDCK (out), B2 CFIOR/NBS1/NWR1 (out), B3 SDCS/NCS1 (out), B4 SDA10 (out), B5 A3 (out), B6 A7 (out), B7 A12 (out), B8 A15 (out), B9 A20 (out), B10 NANDWE (out), B17 WKUP (in), C1 D8 (io), C2 D1 (io), C3 CAS (out), C4 A2 (out), C5 A4 (out), C6 A9 (out), C7 A14 (out), C8 BA1/A17 (out), C9 A19 (out), C10 NANDOE (out), C13 DDP (io), C14 HDMB (io), C17 SHDN (out), D1 D9 (io), D2 (io), D3 RAS (out), D4 D0 (io), D5 A5 (out), D7 A10 (out), D13 DDM (io), D14 HDPB (io), D17 XIN32 (in), E1 D10 (io), E2 D5 (io), E3 D3 (io), E4 D4 (io), E14 HDPA (io), E15 HDMA (io), E17 XOUT32 (out), F1 D13 (io), F2 SDWE (out), F3 D6 (io), F14 OSCSEL (in), F15 ERASE (in), F17 TST (in), G2 D7 (io), G3 SDCKE (out), G15 NRST (io), H2 D14 (io), H3 D12 (io), H4 D11 (io), K3 D15 (io), N1 XIN (in), P1 XOUT (out), T1 PLLRCA (in), U2 ADVREF (power)
part C pins: F16 JTAGSEL (in), G16 RTCK (out), G17 TMS (in), H15 TCK (in), H16 NTRST (in), J14 TDO (out), J16 TDI (in)
part D pins: C15 NC, C16 VDDIOP0 (power), D6 GND (power), D8 GND (power), D9 VDDCORE (power), D10 GND (power), D11 VDDIOM (power), D12 GND (power), D15 NC, D16 VDDBU (power), E16 GNDBU (power), F4 GND (power), G4 VDDIOM (power), G14 GND (power), H8 GND (power), H9 GND (power), H10 GND (power), H14 VDDCORE (power), J3 VDDIOM (power), J8 GND (power), J9 GND (power), J10 GND (power), K8 GND (power), K9 GND (power), K10 GND (power), K16 GND (power), L1 GND (power), L4 VDDIOP0 (power), M1 VDDCORE (power), M3 GND (power), N2 VDDPLL (power), P2 VDDPLL (power), P8 VDDIOP1 (power), R1 NC, R2 GNDANA (power), R4 VDDANA (power), R7 GND (power), T2 GNDPLL (power), T7 GND (power), T13 VDDCORE (power), T15 GND (power), U1 GNDPLL (power), U17 VDDIOP0 (power)

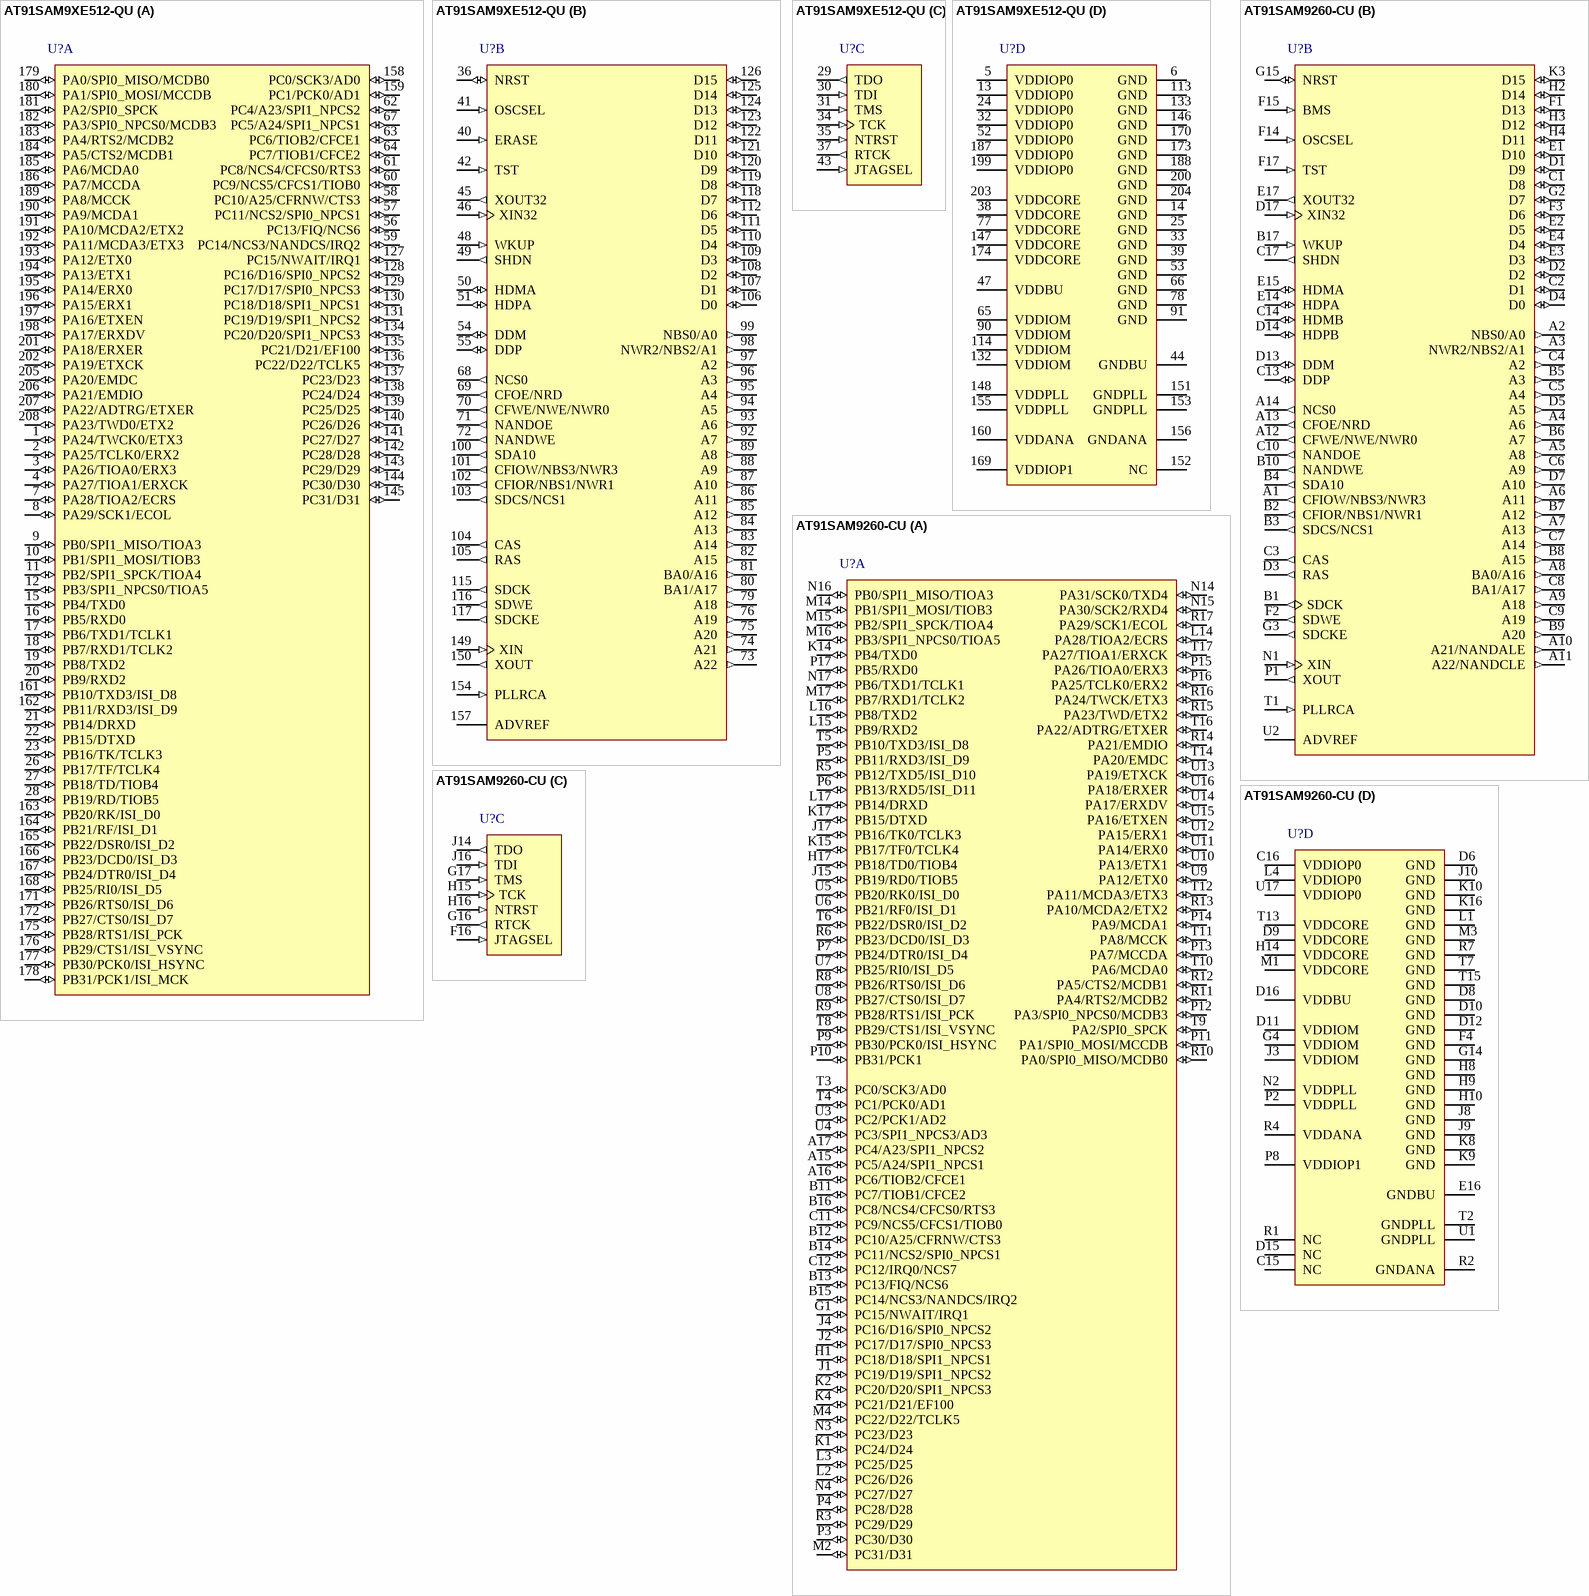
[diagram p39: symbols AT91SAM9XE512-QU to AT91SAM9260-CU]

## AT91SAM9XE512-QU
designator U?
AT91 ARM Thumb 32-bit Microcontroller, 512KB Flash, 32KB ROM, 32KB SRAM, EBI, E-MAC, FS USB, ISI, 208-Pin PQFP, Industrial Grade (-40°C to 85°C), Pb-Free; Published: 20-Sep-2010; DatasheetVersion: revC, Jan-2010; PackageVersion: Jul-2005; PackageReference: QFP208; Publisher: Altium Limited; PackageDescription: 208-Pin Plastic Shrink Quad Flat Pack 0.5 mm Pitch; Supplier 1: Digi-Key; Supplier Part Number 1: AT91SAM9XE512-QU-ND; Supplier 2: Farnell; Supplier Part Number 2: 1715473; Supplier 3: Mouser; Supplier Part Number 3: 556-A91SAM9XE512-QU; Code_JEDEC: MS-022; ComponentLink1Description: Manufacturer Link; ComponentLink1URL: http://www.atmel.com/products/AT91/default.asp?; ComponentLink2Description: AT91SAM9XE128/256/512 Datasheet; ComponentLink2URL: http://www.atmel.com/dyn/resources/prod_documents/doc6254.pdf; ComponentLink3Description: AT91SAM9XE128/256/512 Summary; ComponentLink3URL: http://www.atmel.com/dyn/resources/prod_documents/6254s.pdf; ComponentLink4Description: ARM926EJ-S Reference Manual; ComponentLink4URL: http://www.atmel.com/dyn/resources/prod_documents/ARM_926EJS_TRM.pdf; ComponentLink5Description: Atmel.com Home; ComponentLink5URL: http://www.atmel.com
footprint QFP208_N (Shrink QFP, 208-Leads, Body 28x28mm, Pitch 0.5mm, IPC Medium Density)
footprint QFP208_L (Shrink QFP, 208-Leads, Body 28x28mm, Pitch 0.5mm, IPC High Density)
footprint QFP208_M (Shrink QFP, 208-Leads, Body 28x28mm, Pitch 0.5mm, IPC Low Density)
part A pins: 1 PA24/TWCK0/ETX3 (io), 2 PA25/TCLK0/ERX2 (io), 3 PA26/TIOA0/ERX3 (io), 4 PA27/TIOA1/ERXCK (io), 7 PA28/TIOA2/ECRS (io), 8 PA29/SCK1/ECOL (io), 9 PB0/SPI1_MISO/TIOA3 (io), 10 PB1/SPI1_MOSI/TIOB3 (io), 11 PB2/SPI1_SPCK/TIOA4 (io), 12 PB3/SPI1_NPCS0/TIOA5 (io), 15 PB4/TXD0 (io), 16 PB5/RXD0 (io), 17 PB6/TXD1/TCLK1 (io), 18 PB7/RXD1/TCLK2 (io), 19 PB8/TXD2 (io), 20 PB9/RXD2 (io), 21 PB14/DRXD (io), 22 PB15/DTXD (io), 23 PB16/TK/TCLK3 (io), 26 PB17/TF/TCLK4 (io), 27 PB18/TD/TIOB4 (io), 28 PB19/RD/TIOB5 (io), 56 PC13/FIQ/NCS6 (io), 57 PC11/NCS2/SPI0_NPCS1 (io), 58 PC10/A25/CFRNW/CTS3 (io), 59 PC14/NCS3/NANDCS/IRQ2 (io), 60 PC9/NCS5/CFCS1/TIOB0 (io), 61 PC8/NCS4/CFCS0/RTS3 (io), 62 PC4/A23/SPI1_NPCS2 (io), 63 PC6/TIOB2/CFCE1 (io), 64 PC7/TIOB1/CFCE2 (io), 67 PC5/A24/SPI1_NPCS1 (io), 127 PC15/NWAIT/IRQ1 (io), 128 PC16/D16/SPI0_NPCS2 (io), 129 PC17/D17/SPI0_NPCS3 (io), 130 PC18/D18/SPI1_NPCS1 (io), 131 PC19/D19/SPI1_NPCS2 (io), 134 PC20/D20/SPI1_NPCS3 (io), 135 PC21/D21/EF100 (io), 136 PC22/D22/TCLK5 (io), 137 PC23/D23 (io), 138 PC24/D24 (io), 139 PC25/D25 (io), 140 PC26/D26 (io), 141 PC27/D27 (io), 142 PC28/D28 (io), 143 PC29/D29 (io), 144 PC30/D30 (io), 145 PC31/D31 (io), 158 PC0/SCK3/AD0 (io), 159 PC1/PCK0/AD1 (io), 161 PB10/TXD3/ISI_D8 (io), 162 PB11/RXD3/ISI_D9 (io), 163 PB20/RK/ISI_D0 (io), 164 PB21/RF/ISI_D1 (io), 165 PB22/DSR0/ISI_D2 (io), 166 PB23/DCD0/ISI_D3 (io), 167 PB24/DTR0/ISI_D4 (io), 168 PB25/RI0/ISI_D5 (io), 171 PB26/RTS0/ISI_D6 (io), 172 PB27/CTS0/ISI_D7 (io), 175 PB28/RTS1/ISI_PCK (io), 176 PB29/CTS1/ISI_VSYNC (io), 177 PB30/PCK0/ISI_HSYNC (io), 178 PB31/PCK1/ISI_MCK (io), 179 PA0/SPI0_MISO/MCDB0 (io), 180 PA1/SPI0_MOSI/MCCDB (io), 181 PA2/SPI0_SPCK (io), 182 PA3/SPI0_NPCS0/MCDB3 (io), 183 PA4/RTS2/MCDB2 (io), 184 PA5/CTS2/MCDB1 (io), 185 PA6/MCDA0 (io), 186 PA7/MCCDA (io), 189 PA8/MCCK (io), 190 PA9/MCDA1 (io), 191 PA10/MCDA2/ETX2 (io), 192 PA11/MCDA3/ETX3 (io), 193 PA12/ETX0 (io), 194 PA13/ETX1 (io), 195 PA14/ERX0 (io), 196 PA15/ERX1 (io), 197 PA16/ETXEN (io), 198 PA17/ERXDV (io), 201 PA18/ERXER (io), 202 PA19/ETXCK (io), 205 PA20/EMDC (io), 206 PA21/EMDIO (io), 207 PA22/ADTRG/ETXER (io), 208 PA23/TWD0/ETX2 (io)
part B pins: 36 NRST (io), 40 ERASE (in), 41 OSCSEL (in), 42 TST (in), 45 XOUT32 (out), 46 XIN32 (in), 48 WKUP (in), 49 SHDN (out), 50 HDMA (io), 51 HDPA (io), 54 DDM (io), 55 DDP (io), 68 NCS0 (out), 69 CFOE/NRD (out), 70 CFWE/NWE/NWR0 (out), 71 NANDOE (out), 72 NANDWE (out), 73 A22 (out), 74 A21 (out), 75 A20 (out), 76 A19 (out), 79 A18 (out), 80 BA1/A17 (out), 81 BA0/A16 (out), 82 A15 (out), 83 A14 (out), 84 A13 (out), 85 A12 (out), 86 A11 (out), 87 A10 (out), 88 A9 (out), 89 A8 (out), 92 A7 (out), 93 A6 (out), 94 A5 (out), 95 A4 (out), 96 A3 (out), 97 A2 (out), 98 NWR2/NBS2/A1 (out), 99 NBS0/A0 (out), 100 SDA10 (out), 101 CFIOW/NBS3/NWR3 (out), 102 CFIOR/NBS1/NWR1 (out), 103 SDCS/NCS1 (out), 104 CAS (out), 105 RAS (out), 106 D0 (io), 107 D1 (io), 108 D2 (io), 109 D3 (io), 110 D4 (io), 111 D5 (io), 112 D6 (io), 115 SDCK (out), 116 SDWE (out), 117 SDCKE (out), 118 D7 (io), 119 D8 (io), 120 D9 (io), 121 D10 (io), 122 D11 (io), 123 D12 (io), 124 D13 (io), 125 D14 (io), 126 D15 (io), 149 XIN (in), 150 XOUT (out), 154 PLLRCA (in), 157 ADVREF (power)
part C pins: 29 TDO (out), 30 TDI (in), 31 TMS (in), 34 TCK (in), 35 NTRST (in), 37 RTCK (out), 43 JTAGSEL (in)
part D pins: 5 VDDIOP0 (power), 6 GND (power), 13 VDDIOP0 (power), 14 GND (power), 24 VDDIOP0 (power), 25 GND (power), 32 VDDIOP0 (power), 33 GND (power), 38 VDDCORE (power), 39 GND (power), 44 GNDBU (power), 47 VDDBU (power), 52 VDDIOP0 (power), 53 GND (power), 65 VDDIOM (power), 66 GND (power), 77 VDDCORE (power), 78 GND (power), 90 VDDIOM (power), 91 GND (power), 113 GND (power), 114 VDDIOM (power), 132 VDDIOM (power), 133 GND (power), 146 GND (power), 147 VDDCORE (power), 148 VDDPLL (power), 151 GNDPLL (power), 152 NC, 153 GNDPLL (power), 155 VDDPLL (power), 156 GNDANA (power), 160 VDDANA (power), 169 VDDIOP1 (power), 170 GND (power), 173 GND (power), 174 VDDCORE (power), 187 VDDIOP0 (power), 188 GND (power), 199 VDDIOP0 (power), 200 GND (power), 203 VDDCORE (power), 204 GND (power)

## AT91SAM9260-CU
designator U?
AT91 ARM Thumb 32-bit Microcontroller, 32KB ROM, 2x4KB SRAM, EBI, E-MAC, FS USB, 217-Pin LFBGA, Industrial Grade (-40°C to 85°C), Pb-Free; Published: 20-Sep-2010; DatasheetVersion: revI, Jul-2009; PackageVersion: 2009; PackageReference: LFBGA217; Publisher: Altium Limited; PackageDescription: 217-Ball Plastic Low Profile Fine-Pitch BGA, 15 x 15 mm Body, 0.8 mm Pitch; Supplier 1: Mouser; Supplier Part Number 1: 556-AT91SAM9260-CU; Code_JEDEC: MO-205; ComponentLink1Description: Manufacturer Link; ComponentLink1URL: http://www.atmel.com/products/AT91/default.asp?; ComponentLink2Description: AT91SAM9260 Datasheet; ComponentLink2URL: http://www.atmel.com/dyn/resources/prod_documents/doc6221.pdf; ComponentLink3Description: AT91SAM9260 Summary; ComponentLink3URL: http://www.atmel.com/dyn/resources/prod_documents/6221s.pdf; ComponentLink4Description: ARM9E-S Reference Manual; ComponentLink4URL: http://www.atmel.com/dyn/resources/prod_documents/doc6178.pdf; ComponentLink5Description: Atmel.com Home; ComponentLink5URL: http://www.atmel.com
footprint LFBGA217 (BGA, 208-Leads, Body 15x15mm, Pitch 0.8mm)
part A pins: A15 PC5/A24/SPI1_NPCS1 (io), A16 PC6/TIOB2/CFCE1 (io), A17 PC4/A23/SPI1_NPCS2 (io), B11 PC7/TIOB1/CFCE2 (io), B12 PC10/A25/CFRNW/CTS3 (io), B13 PC13/FIQ/NCS6 (io), B14 PC11/NCS2/SPI0_NPCS1 (io), B15 PC14/NCS3/NANDCS/IRQ2 (io), B16 PC8/NCS4/CFCS0/RTS3 (io), C11 PC9/NCS5/CFCS1/TIOB0 (io), C12 PC12/IRQ0/NCS7 (io), G1 PC15/NWAIT/IRQ1 (io), H1 PC18/D18/SPI1_NPCS1 (io), H17 PB18/TD0/TIOB4 (io), J1 PC19/D19/SPI1_NPCS2 (io), J2 PC17/D17/SPI0_NPCS3 (io), J4 PC16/D16/SPI0_NPCS2 (io), J15 PB19/RD0/TIOB5 (io), J17 PB16/TK0/TCLK3 (io), K1 PC24/D24 (io), K2 PC20/D20/SPI1_NPCS3 (io), K4 PC21/D21/EF100 (io), K14 PB4/TXD0 (io), K15 PB17/TF0/TCLK4 (io), K17 PB15/DTXD (io), L2 PC26/D26 (io), L3 PC25/D25 (io), L14 PA28/TIOA2/ECRS (io), L15 PB9/RXD2 (io), L16 PB8/TXD2 (io), L17 PB14/DRXD (io), M2 PC31/D31 (io), M4 PC22/D22/TCLK5 (io), M14 PB1/SPI1_MOSI/TIOB3 (io), M15 PB2/SPI1_SPCK/TIOA4 (io), M16 PB3/SPI1_NPCS0/TIOA5 (io), M17 PB7/RXD1/TCLK2 (io), N3 PC23/D23 (io), N4 PC27/D27 (io), N14 PA31/SCK0/TXD4 (io), N15 PA30/SCK2/RXD4 (io), N16 PB0/SPI1_MISO/TIOA3 (io), N17 PB6/TXD1/TCLK1 (io), P3 PC30/D30 (io), P4 PC28/D28 (io), P5 PB11/RXD3/ISI_D9 (io), P6 PB13/RXD5/ISI_D11 (io), P7 PB24/DTR0/ISI_D4 (io), P9 PB30/PCK0/ISI_HSYNC (io), P10 PB31/PCK1 (io), P11 PA1/SPI0_MOSI/MCCDB (io), P12 PA3/SPI0_NPCS0/MCDB3 (io), P13 PA7/MCCDA (io), P14 PA9/MCDA1 (io), P15 PA26/TIOA0/ERX3 (io), P16 PA25/TCLK0/ERX2 (io), P17 PB5/RXD0 (io), R3 PC29/D29 (io), R5 PB12/TXD5/ISI_D10 (io), R6 PB23/DCD0/ISI_D3 (io), R8 PB26/RTS0/ISI_D6 (io), R9 PB28/RTS1/ISI_PCK (io), R10 PA0/SPI0_MISO/MCDB0 (io), R11 PA4/RTS2/MCDB2 (io), R12 PA5/CTS2/MCDB1 (io), R13 PA10/MCDA2/ETX2 (io), R14 PA21/EMDIO (io), R15 PA23/TWD/ETX2 (io), R16 PA24/TWCK/ETX3 (io), R17 PA29/SCK1/ECOL (io), T3 PC0/SCK3/AD0 (io), T4 PC1/PCK0/AD1 (io), T5 PB10/TXD3/ISI_D8 (io), T6 PB22/DSR0/ISI_D2 (io), T8 PB29/CTS1/ISI_VSYNC (io), T9 PA2/SPI0_SPCK (io), T10 PA6/MCDA0 (io), T11 PA8/MCCK (io), T12 PA11/MCDA3/ETX3 (io), T14 PA20/EMDC (io), T16 PA22/ADTRG/ETXER (io), T17 PA27/TIOA1/ERXCK (io), U3 PC2/PCK1/AD2 (io), U4 PC3/SPI1_NPCS3/AD3 (io), U5 PB20/RK0/ISI_D0 (io), U6 PB21/RF0/ISI_D1 (io), U7 PB25/RI0/ISI_D5 (io), U8 PB27/CTS0/ISI_D7 (io), U9 PA12/ETX0 (io), U10 PA13/ETX1 (io), U11 PA14/ERX0 (io), U12 PA15/ERX1 (io), U13 PA19/ETXCK (io), U14 PA17/ERXDV (io), U15 PA16/ETXEN (io), U16 PA18/ERXER (io)
part B pins: A1 CFIOW/NBS3/NWR3 (out), A2 NBS0/A0 (out), A3 NWR2/NBS2/A1 (out), A4 A6 (out), A5 A8 (out), A6 A11 (out), A7 A13 (out), A8 BA0/A16 (out), A9 A18 (out), A10 A21/NANDALE (out), A11 A22/NANDCLE (out), A12 CFWE/NWE/NWR0 (out), A13 CFOE/NRD (out), A14 NCS0 (out), B1 SDCK (out), B2 CFIOR/NBS1/NWR1 (out), B3 SDCS/NCS1 (out), B4 SDA10 (out), B5 A3 (out), B6 A7 (out), B7 A12 (out), B8 A15 (out), B9 A20 (out), B10 NANDWE (out), B17 WKUP (in), C1 D8 (io), C2 D1 (io), C3 CAS (out), C4 A2 (out), C5 A4 (out), C6 A9 (out), C7 A14 (out), C8 BA1/A17 (out), C9 A19 (out), C10 NANDOE (out), C13 DDP (io), C14 HDMB (io), C17 SHDN (out), D1 D9 (io), D2 (io), D3 RAS (out), D4 D0 (io), D5 A5 (out), D7 A10 (out), D13 DDM (io), D14 HDPB (io), D17 XIN32 (in), E1 D10 (io), E2 D5 (io), E3 D3 (io), E4 D4 (io), E14 HDPA (io), E15 HDMA (io), E17 XOUT32 (out), F1 D13 (io), F2 SDWE (out), F3 D6 (io), F14 OSCSEL (in), F15 BMS (in), F17 TST (in), G2 D7 (io), G3 SDCKE (out), G15 NRST (io), H2 D14 (io), H3 D12 (io), H4 D11 (io), K3 D15 (io), N1 XIN (in), P1 XOUT (out), T1 PLLRCA (in), U2 ADVREF (power)
part C pins: F16 JTAGSEL (in), G16 RTCK (out), G17 TMS (in), H15 TCK (in), H16 NTRST (in), J14 TDO (out), J16 TDI (in)
part D pins: C15 NC, C16 VDDIOP0 (power), D6 GND (power), D8 GND (power), D9 VDDCORE (power), D10 GND (power), D11 VDDIOM (power), D12 GND (power), D15 NC, D16 VDDBU (power), E16 GNDBU (power), F4 GND (power), G4 VDDIOM (power), G14 GND (power), H8 GND (power), H9 GND (power), H10 GND (power), H14 VDDCORE (power), J3 VDDIOM (power), J8 GND (power), J9 GND (power), J10 GND (power), K8 GND (power), K9 GND (power), K10 GND (power), K16 GND (power), L1 GND (power), L4 VDDIOP0 (power), M1 VDDCORE (power), M3 GND (power), N2 VDDPLL (power), P2 VDDPLL (power), P8 VDDIOP1 (power), R1 NC, R2 GNDANA (power), R4 VDDANA (power), R7 GND (power), T2 GNDPLL (power), T7 GND (power), T13 VDDCORE (power), T15 GND (power), U1 GNDPLL (power), U17 VDDIOP0 (power)

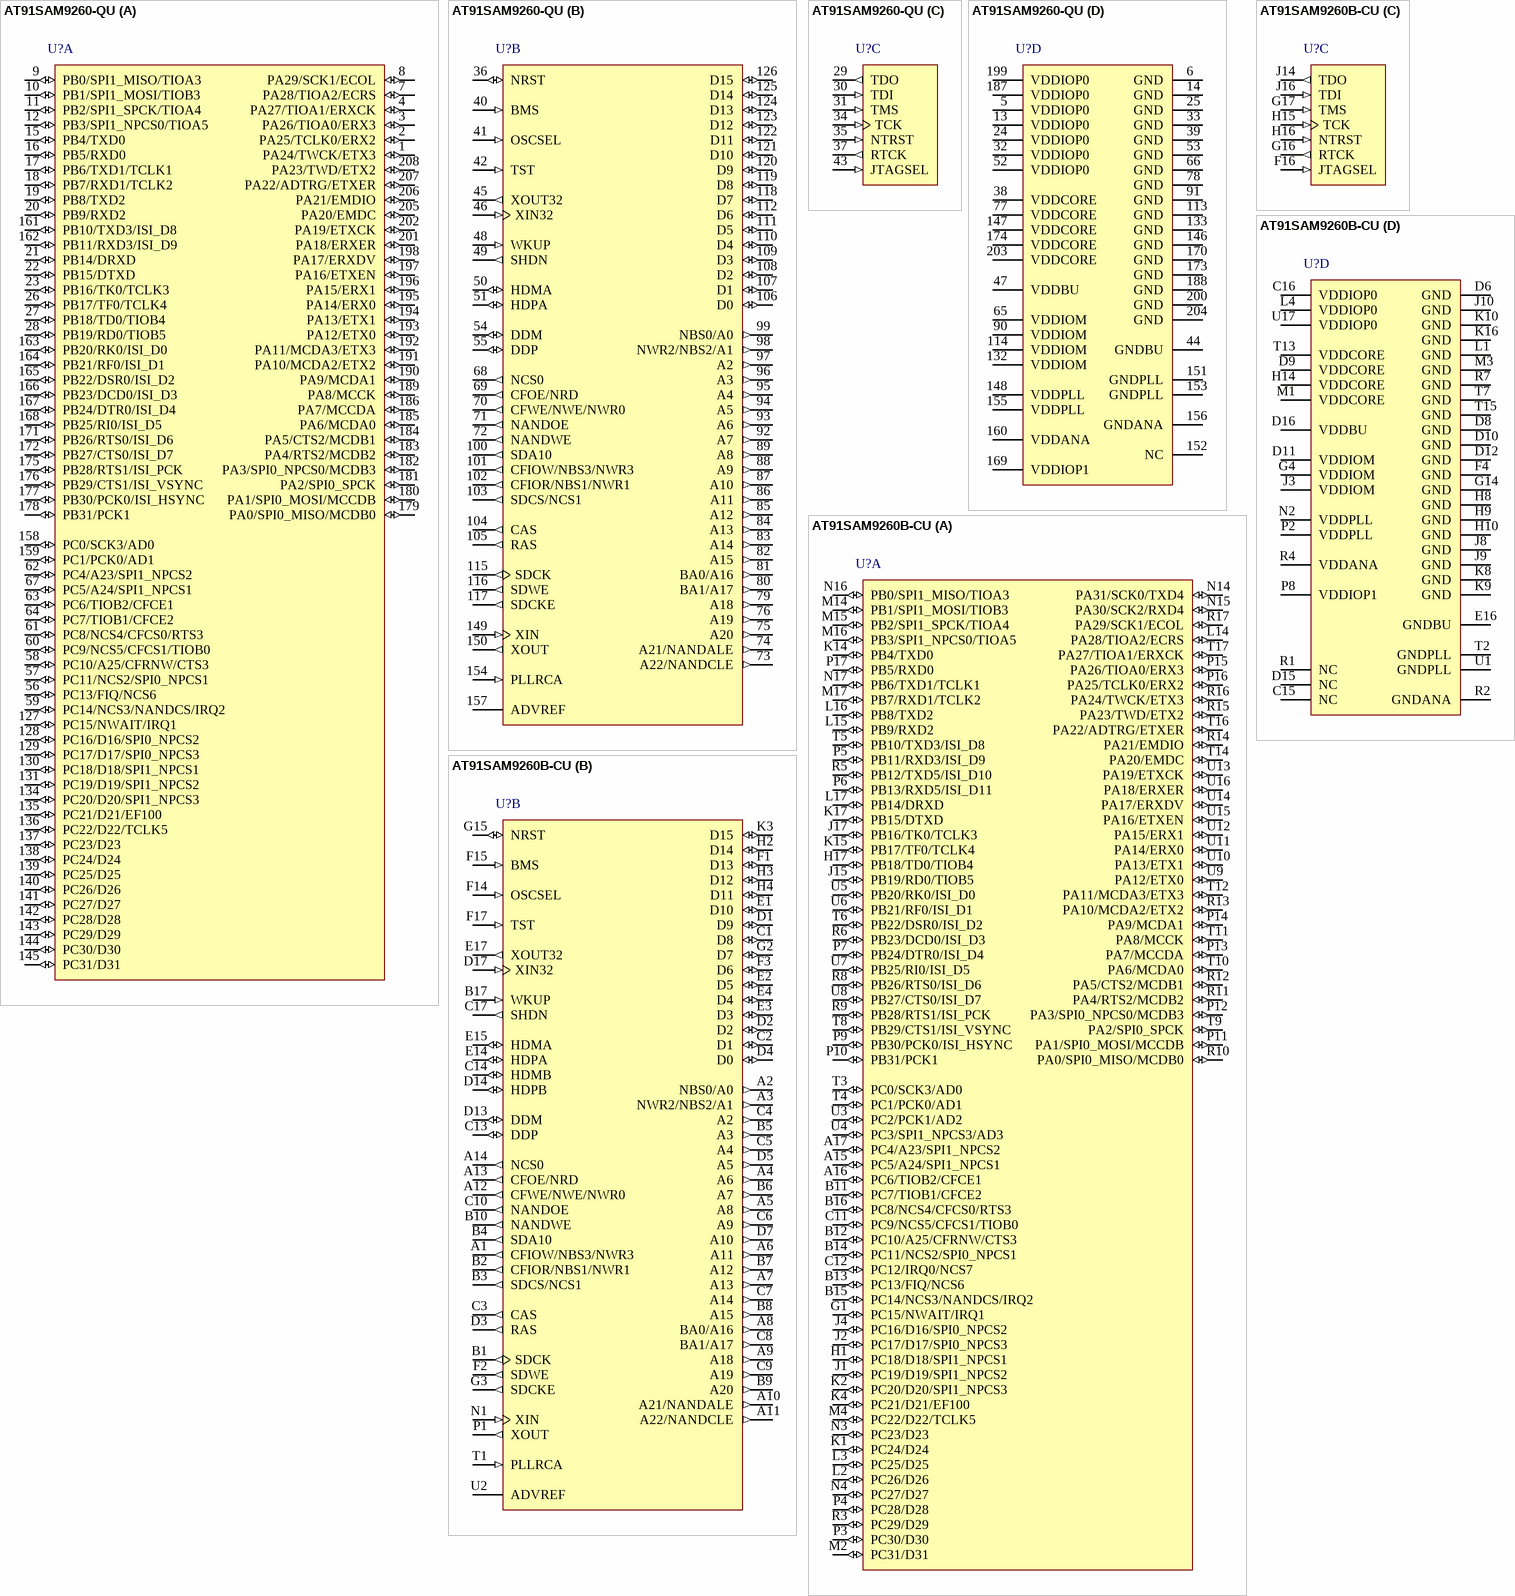
[diagram p40: symbols AT91SAM9260-QU to AT91SAM9260B-CU]

## AT91SAM9260-QU
designator U?
AT91 ARM Thumb 32-bit Microcontroller, 32KB ROM, 2x4KB SRAM, EBI, E-MAC, FS USB, 208-Pin PQFP, Industrial Grade (-40°C to 85°C), Pb-Free; Published: 20-Sep-2010; DatasheetVersion: revI, Jul-2009; PackageVersion: Jul-2005; PackageReference: QFP208; Publisher: Altium Limited; PackageDescription: 208-Pin Plastic Shrink Quad Flat Pack 0.5 mm Pitch; Supplier 1: Mouser; Supplier Part Number 1: 556-A91SAM9260-QU; Code_JEDEC: MS-022; ComponentLink1Description: Manufacturer Link; ComponentLink1URL: http://www.atmel.com/products/AT91/default.asp?; ComponentLink2Description: AT91SAM9260 Datasheet; ComponentLink2URL: http://www.atmel.com/dyn/resources/prod_documents/doc6221.pdf; ComponentLink3Description: AT91SAM9260 Summary; ComponentLink3URL: http://www.atmel.com/dyn/resources/prod_documents/6221s.pdf; ComponentLink4Description: ARM9E-S Reference Manual; ComponentLink4URL: http://www.atmel.com/dyn/resources/prod_documents/doc6178.pdf; ComponentLink5Description: Atmel.com Home; ComponentLink5URL: http://www.atmel.com
footprint QFP208_N (Shrink QFP, 208-Leads, Body 28x28mm, Pitch 0.5mm, IPC Medium Density)
footprint QFP208_L (Shrink QFP, 208-Leads, Body 28x28mm, Pitch 0.5mm, IPC High Density)
footprint QFP208_M (Shrink QFP, 208-Leads, Body 28x28mm, Pitch 0.5mm, IPC Low Density)
part A pins: 1 PA24/TWCK/ETX3 (io), 2 PA25/TCLK0/ERX2 (io), 3 PA26/TIOA0/ERX3 (io), 4 PA27/TIOA1/ERXCK (io), 7 PA28/TIOA2/ECRS (io), 8 PA29/SCK1/ECOL (io), 9 PB0/SPI1_MISO/TIOA3 (io), 10 PB1/SPI1_MOSI/TIOB3 (io), 11 PB2/SPI1_SPCK/TIOA4 (io), 12 PB3/SPI1_NPCS0/TIOA5 (io), 15 PB4/TXD0 (io), 16 PB5/RXD0 (io), 17 PB6/TXD1/TCLK1 (io), 18 PB7/RXD1/TCLK2 (io), 19 PB8/TXD2 (io), 20 PB9/RXD2 (io), 21 PB14/DRXD (io), 22 PB15/DTXD (io), 23 PB16/TK0/TCLK3 (io), 26 PB17/TF0/TCLK4 (io), 27 PB18/TD0/TIOB4 (io), 28 PB19/RD0/TIOB5 (io), 56 PC13/FIQ/NCS6 (io), 57 PC11/NCS2/SPI0_NPCS1 (io), 58 PC10/A25/CFRNW/CTS3 (io), 59 PC14/NCS3/NANDCS/IRQ2 (io), 60 PC9/NCS5/CFCS1/TIOB0 (io), 61 PC8/NCS4/CFCS0/RTS3 (io), 62 PC4/A23/SPI1_NPCS2 (io), 63 PC6/TIOB2/CFCE1 (io), 64 PC7/TIOB1/CFCE2 (io), 67 PC5/A24/SPI1_NPCS1 (io), 127 PC15/NWAIT/IRQ1 (io), 128 PC16/D16/SPI0_NPCS2 (io), 129 PC17/D17/SPI0_NPCS3 (io), 130 PC18/D18/SPI1_NPCS1 (io), 131 PC19/D19/SPI1_NPCS2 (io), 134 PC20/D20/SPI1_NPCS3 (io), 135 PC21/D21/EF100 (io), 136 PC22/D22/TCLK5 (io), 137 PC23/D23 (io), 138 PC24/D24 (io), 139 PC25/D25 (io), 140 PC26/D26 (io), 141 PC27/D27 (io), 142 PC28/D28 (io), 143 PC29/D29 (io), 144 PC30/D30 (io), 145 PC31/D31 (io), 158 PC0/SCK3/AD0 (io), 159 PC1/PCK0/AD1 (io), 161 PB10/TXD3/ISI_D8 (io), 162 PB11/RXD3/ISI_D9 (io), 163 PB20/RK0/ISI_D0 (io), 164 PB21/RF0/ISI_D1 (io), 165 PB22/DSR0/ISI_D2 (io), 166 PB23/DCD0/ISI_D3 (io), 167 PB24/DTR0/ISI_D4 (io), 168 PB25/RI0/ISI_D5 (io), 171 PB26/RTS0/ISI_D6 (io), 172 PB27/CTS0/ISI_D7 (io), 175 PB28/RTS1/ISI_PCK (io), 176 PB29/CTS1/ISI_VSYNC (io), 177 PB30/PCK0/ISI_HSYNC (io), 178 PB31/PCK1 (io), 179 PA0/SPI0_MISO/MCDB0 (io), 180 PA1/SPI0_MOSI/MCCDB (io), 181 PA2/SPI0_SPCK (io), 182 PA3/SPI0_NPCS0/MCDB3 (io), 183 PA4/RTS2/MCDB2 (io), 184 PA5/CTS2/MCDB1 (io), 185 PA6/MCDA0 (io), 186 PA7/MCCDA (io), 189 PA8/MCCK (io), 190 PA9/MCDA1 (io), 191 PA10/MCDA2/ETX2 (io), 192 PA11/MCDA3/ETX3 (io), 193 PA12/ETX0 (io), 194 PA13/ETX1 (io), 195 PA14/ERX0 (io), 196 PA15/ERX1 (io), 197 PA16/ETXEN (io), 198 PA17/ERXDV (io), 201 PA18/ERXER (io), 202 PA19/ETXCK (io), 205 PA20/EMDC (io), 206 PA21/EMDIO (io), 207 PA22/ADTRG/ETXER (io), 208 PA23/TWD/ETX2 (io)
part B pins: 36 NRST (io), 40 BMS (in), 41 OSCSEL (in), 42 TST (in), 45 XOUT32 (out), 46 XIN32 (in), 48 WKUP (in), 49 SHDN (out), 50 HDMA (io), 51 HDPA (io), 54 DDM (io), 55 DDP (io), 68 NCS0 (out), 69 CFOE/NRD (out), 70 CFWE/NWE/NWR0 (out), 71 NANDOE (out), 72 NANDWE (out), 73 A22/NANDCLE (out), 74 A21/NANDALE (out), 75 A20 (out), 76 A19 (out), 79 A18 (out), 80 BA1/A17 (out), 81 BA0/A16 (out), 82 A15 (out), 83 A14 (out), 84 A13 (out), 85 A12 (out), 86 A11 (out), 87 A10 (out), 88 A9 (out), 89 A8 (out), 92 A7 (out), 93 A6 (out), 94 A5 (out), 95 A4 (out), 96 A3 (out), 97 A2 (out), 98 NWR2/NBS2/A1 (out), 99 NBS0/A0 (out), 100 SDA10 (out), 101 CFIOW/NBS3/NWR3 (out), 102 CFIOR/NBS1/NWR1 (out), 103 SDCS/NCS1 (out), 104 CAS (out), 105 RAS (out), 106 D0 (io), 107 D1 (io), 108 D2 (io), 109 D3 (io), 110 D4 (io), 111 D5 (io), 112 D6 (io), 115 SDCK (out), 116 SDWE (out), 117 SDCKE (out), 118 D7 (io), 119 D8 (io), 120 D9 (io), 121 D10 (io), 122 D11 (io), 123 D12 (io), 124 D13 (io), 125 D14 (io), 126 D15 (io), 149 XIN (in), 150 XOUT (out), 154 PLLRCA (in), 157 ADVREF (power)
part C pins: 29 TDO (out), 30 TDI (in), 31 TMS (in), 34 TCK (in), 35 NTRST (in), 37 RTCK (out), 43 JTAGSEL (in)
part D pins: 5 VDDIOP0 (power), 6 GND (power), 13 VDDIOP0 (power), 14 GND (power), 24 VDDIOP0 (power), 25 GND (power), 32 VDDIOP0 (power), 33 GND (power), 38 VDDCORE (power), 39 GND (power), 44 GNDBU (power), 47 VDDBU (power), 52 VDDIOP0 (power), 53 GND (power), 65 VDDIOM (power), 66 GND (power), 77 VDDCORE (power), 78 GND (power), 90 VDDIOM (power), 91 GND (power), 113 GND (power), 114 VDDIOM (power), 132 VDDIOM (power), 133 GND (power), 146 GND (power), 147 VDDCORE (power), 148 VDDPLL (power), 151 GNDPLL (power), 152 NC, 153 GNDPLL (power), 155 VDDPLL (power), 156 GNDANA (power), 160 VDDANA (power), 169 VDDIOP1 (power), 170 GND (power), 173 GND (power), 174 VDDCORE (power), 187 VDDIOP0 (power), 188 GND (power), 199 VDDIOP0 (power), 200 GND (power), 203 VDDCORE (power), 204 GND (power)